# Altium schematic symbol library 2.1 - STM32系列单片机.SchLib: 370 symbols (part 2 of 21)
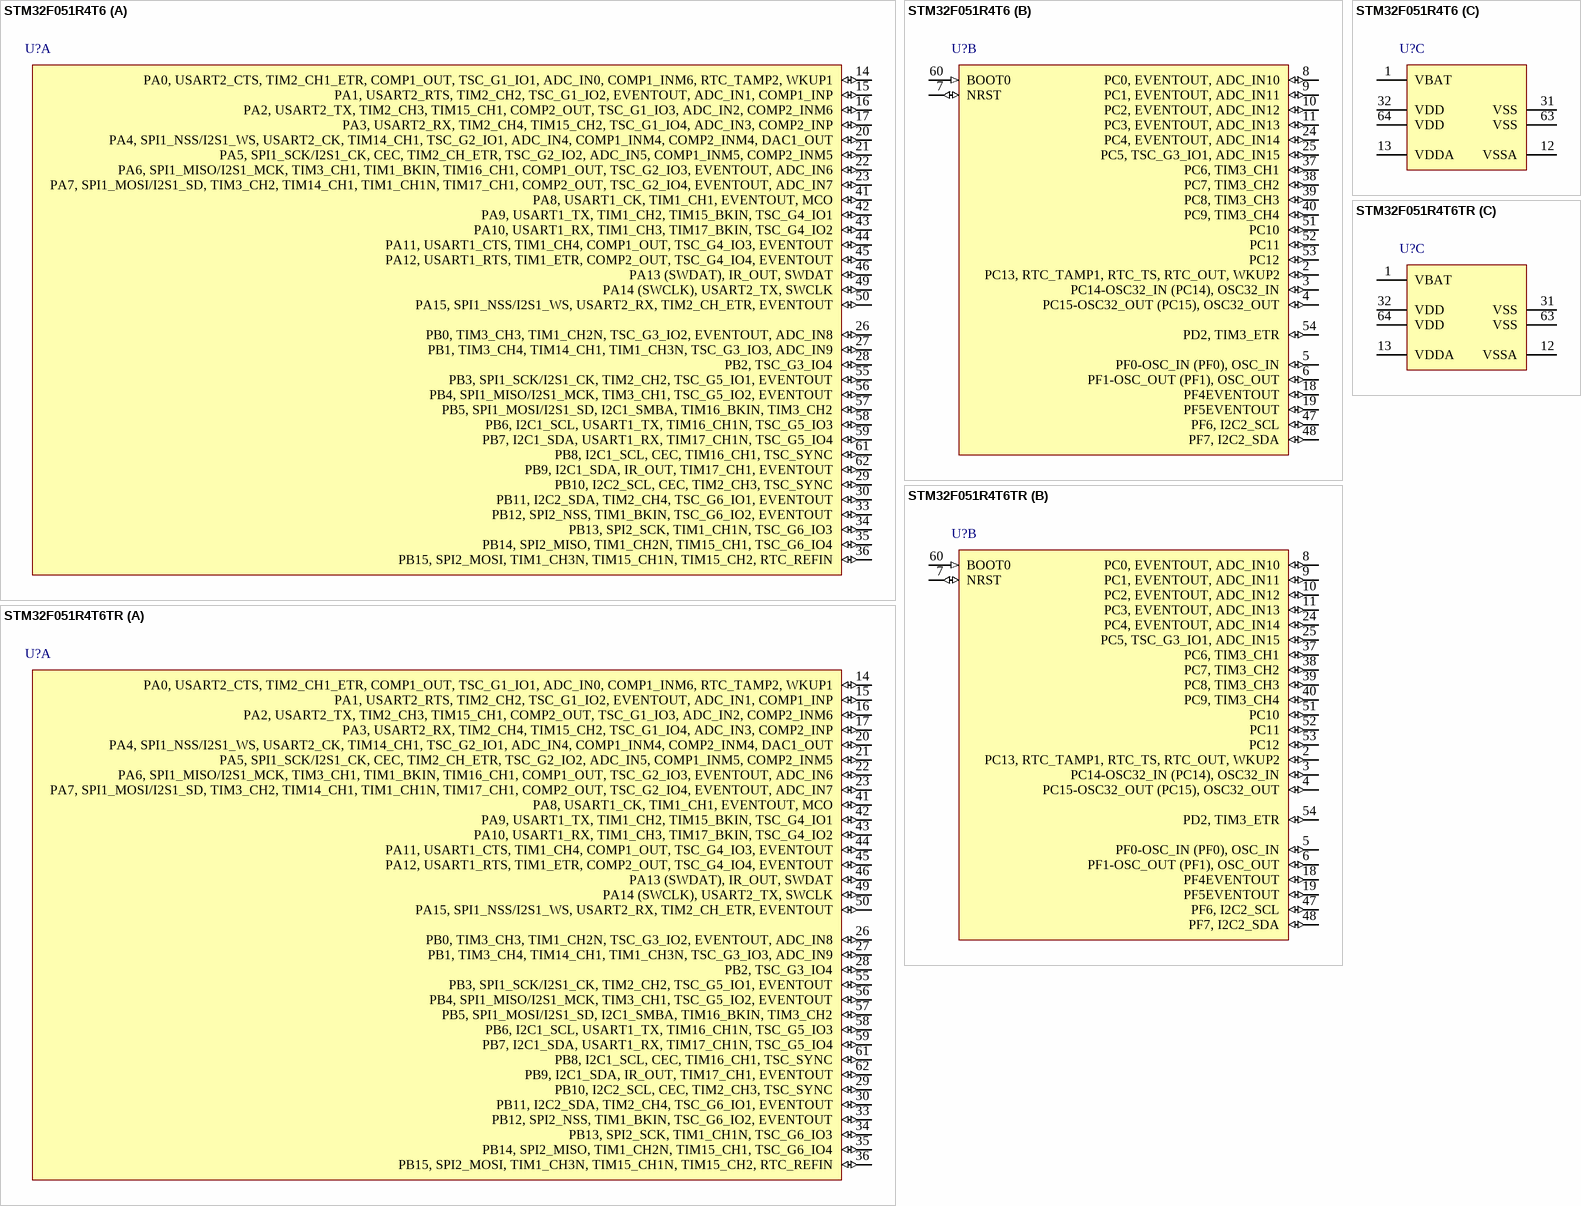
[diagram p99: symbols STM32F051R4T6 to STM32F051R4T6TR]

## STM32F051R4T6TR
designator U?
ARM Cortex-M0 32-bit RISC core (48 MHz max), 16kB Flash, 4 kB Internal RAM, 55 High Current I/Os, -40 to +85癈, 64-Pin LQFP, Tape and Reel; 16-bit timers (IC/OC/PWM): 8x16-bit; 32-bit timer (IC/OC/PWM): 1x32-bit; Other timer functions: 2 x WDG, RTC, 24-bit down counter; A/D Converter: 16x12-bit; Serial Interface: 1xSPI/I2S;1xI2C;1xUSART(IrDA, ISO 7816);CEC; Supply Current(Icc) (Lowest power mode) typ (礎): 1.65; Supply Current(Icc) (Run mode (per Mhz)) typ (礎): 250; 联系卖家，免费查找封装: 唯一出售店铺网址https://shop463601444.taobao.com; DatasheetVersion: rev1, Apr-2012; PackageVersion: rev13, Apr-2011; PackageReference: LQFP64; PackageDescription: 64-Pin Low-Profile Quad Flat Pack, 10 x 10 mm Body, 0.5 mm Pitch (LQFP64); ComponentLink1Description: Manufacturer URL; ComponentLink1URL: http://www.st.com/; ComponentLink2Description: Datasheet; ComponentLink2URL: http://www.st.com/internet/com/TECHNICAL_RESOURCES/TECHNICAL_LITERATURE/DATASHEET/DM00039193.pdf; ComponentLink3Description: STM32F0 Web Page; ComponentLink3URL: http://www.st.com/internet/mcu/subclass/1588.jsp
footprint LQFP64_N (Thin QFP, 64-Leads, Body 10x10mm, Pitch 0.5mm, IPC Medium Density)
footprint LQFP64_L (Thin QFP, 64-Leads, Body 10x10mm, Pitch 0.5mm, IPC High Density)
footprint LQFP64_M (Thin QFP, 64-Leads, Body 10x10mm, Pitch 0.5mm, IPC Low Density)
part A pins: 14 PA0, USART2_CTS, TIM2_CH1_ETR, COMP1_OUT, TSC_G1_IO1, ADC_IN0, COMP1_INM6, RTC_TAMP2, WKUP1 (io), 15 PA1, USART2_RTS, TIM2_CH2, TSC_G1_IO2, EVENTOUT, ADC_IN1, COMP1_INP (io), 16 PA2, USART2_TX, TIM2_CH3, TIM15_CH1, COMP2_OUT, TSC_G1_IO3, ADC_IN2, COMP2_INM6 (io), 17 PA3, USART2_RX, TIM2_CH4, TIM15_CH2, TSC_G1_IO4, ADC_IN3, COMP2_INP (io), 20 PA4, SPI1_NSS/I2S1_WS, USART2_CK, TIM14_CH1, TSC_G2_IO1, ADC_IN4, COMP1_INM4, COMP2_INM4, DAC1_OUT (io), 21 PA5, SPI1_SCK/I2S1_CK, CEC, TIM2_CH_ETR, TSC_G2_IO2, ADC_IN5, COMP1_INM5, COMP2_INM5 (io), 22 PA6, SPI1_MISO/I2S1_MCK, TIM3_CH1, TIM1_BKIN, TIM16_CH1, COMP1_OUT, TSC_G2_IO3, EVENTOUT, ADC_IN6 (io), 23 PA7, SPI1_MOSI/I2S1_SD, TIM3_CH2, TIM14_CH1, TIM1_CH1N, TIM17_CH1, COMP2_OUT, TSC_G2_IO4, EVENTOUT, ADC_IN7 (io), 26 PB0, TIM3_CH3, TIM1_CH2N, TSC_G3_IO2, EVENTOUT, ADC_IN8 (io), 27 PB1, TIM3_CH4, TIM14_CH1, TIM1_CH3N, TSC_G3_IO3, ADC_IN9 (io), 28 PB2, TSC_G3_IO4 (io), 29 PB10, I2C2_SCL, CEC, TIM2_CH3, TSC_SYNC (io), 30 PB11, I2C2_SDA, TIM2_CH4, TSC_G6_IO1, EVENTOUT (io), 33 PB12, SPI2_NSS, TIM1_BKIN, TSC_G6_IO2, EVENTOUT (io), 34 PB13, SPI2_SCK, TIM1_CH1N, TSC_G6_IO3 (io), 35 PB14, SPI2_MISO, TIM1_CH2N, TIM15_CH1, TSC_G6_IO4 (io), 36 PB15, SPI2_MOSI, TIM1_CH3N, TIM15_CH1N, TIM15_CH2, RTC_REFIN (io), 41 PA8, USART1_CK, TIM1_CH1, EVENTOUT, MCO (io), 42 PA9, USART1_TX, TIM1_CH2, TIM15_BKIN, TSC_G4_IO1 (io), 43 PA10, USART1_RX, TIM1_CH3, TIM17_BKIN, TSC_G4_IO2 (io), 44 PA11, USART1_CTS, TIM1_CH4, COMP1_OUT, TSC_G4_IO3, EVENTOUT (io), 45 PA12, USART1_RTS, TIM1_ETR, COMP2_OUT, TSC_G4_IO4, EVENTOUT (io), 46 PA13 (SWDAT), IR_OUT, SWDAT (io), 49 PA14 (SWCLK), USART2_TX, SWCLK (io), 50 PA15, SPI1_NSS/I2S1_WS, USART2_RX, TIM2_CH_ETR, EVENTOUT (io), 55 PB3, SPI1_SCK/I2S1_CK, TIM2_CH2, TSC_G5_IO1, EVENTOUT (io), 56 PB4, SPI1_MISO/I2S1_MCK, TIM3_CH1, TSC_G5_IO2, EVENTOUT (io), 57 PB5, SPI1_MOSI/I2S1_SD, I2C1_SMBA, TIM16_BKIN, TIM3_CH2 (io), 58 PB6, I2C1_SCL, USART1_TX, TIM16_CH1N, TSC_G5_IO3 (io), 59 PB7, I2C1_SDA, USART1_RX, TIM17_CH1N, TSC_G5_IO4 (io), 61 PB8, I2C1_SCL, CEC, TIM16_CH1, TSC_SYNC (io), 62 PB9, I2C1_SDA, IR_OUT, TIM17_CH1, EVENTOUT (io)
part B pins: 2 PC13, RTC_TAMP1, RTC_TS, RTC_OUT, WKUP2 (io), 3 PC14-OSC32_IN (PC14), OSC32_IN (io), 4 PC15-OSC32_OUT (PC15), OSC32_OUT (io), 5 PF0-OSC_IN (PF0), OSC_IN (io), 6 PF1-OSC_OUT (PF1), OSC_OUT (io), 7 NRST (io), 8 PC0, EVENTOUT, ADC_IN10 (io), 9 PC1, EVENTOUT, ADC_IN11 (io), 10 PC2, EVENTOUT, ADC_IN12 (io), 11 PC3, EVENTOUT, ADC_IN13 (io), 18 PF4EVENTOUT (io), 19 PF5EVENTOUT (io), 24 PC4, EVENTOUT, ADC_IN14 (io), 25 PC5, TSC_G3_IO1, ADC_IN15 (io), 37 PC6, TIM3_CH1 (io), 38 PC7, TIM3_CH2 (io), 39 PC8, TIM3_CH3 (io), 40 PC9, TIM3_CH4 (io), 47 PF6, I2C2_SCL (io), 48 PF7, I2C2_SDA (io), 51 PC10 (io), 52 PC11 (io), 53 PC12 (io), 54 PD2, TIM3_ETR (io), 60 BOOT0 (in)
part C pins: 1 VBAT (power), 12 VSSA (power), 13 VDDA (power), 31 VSS (power), 32 VDD (power), 63 VSS (power), 64 VDD (power)

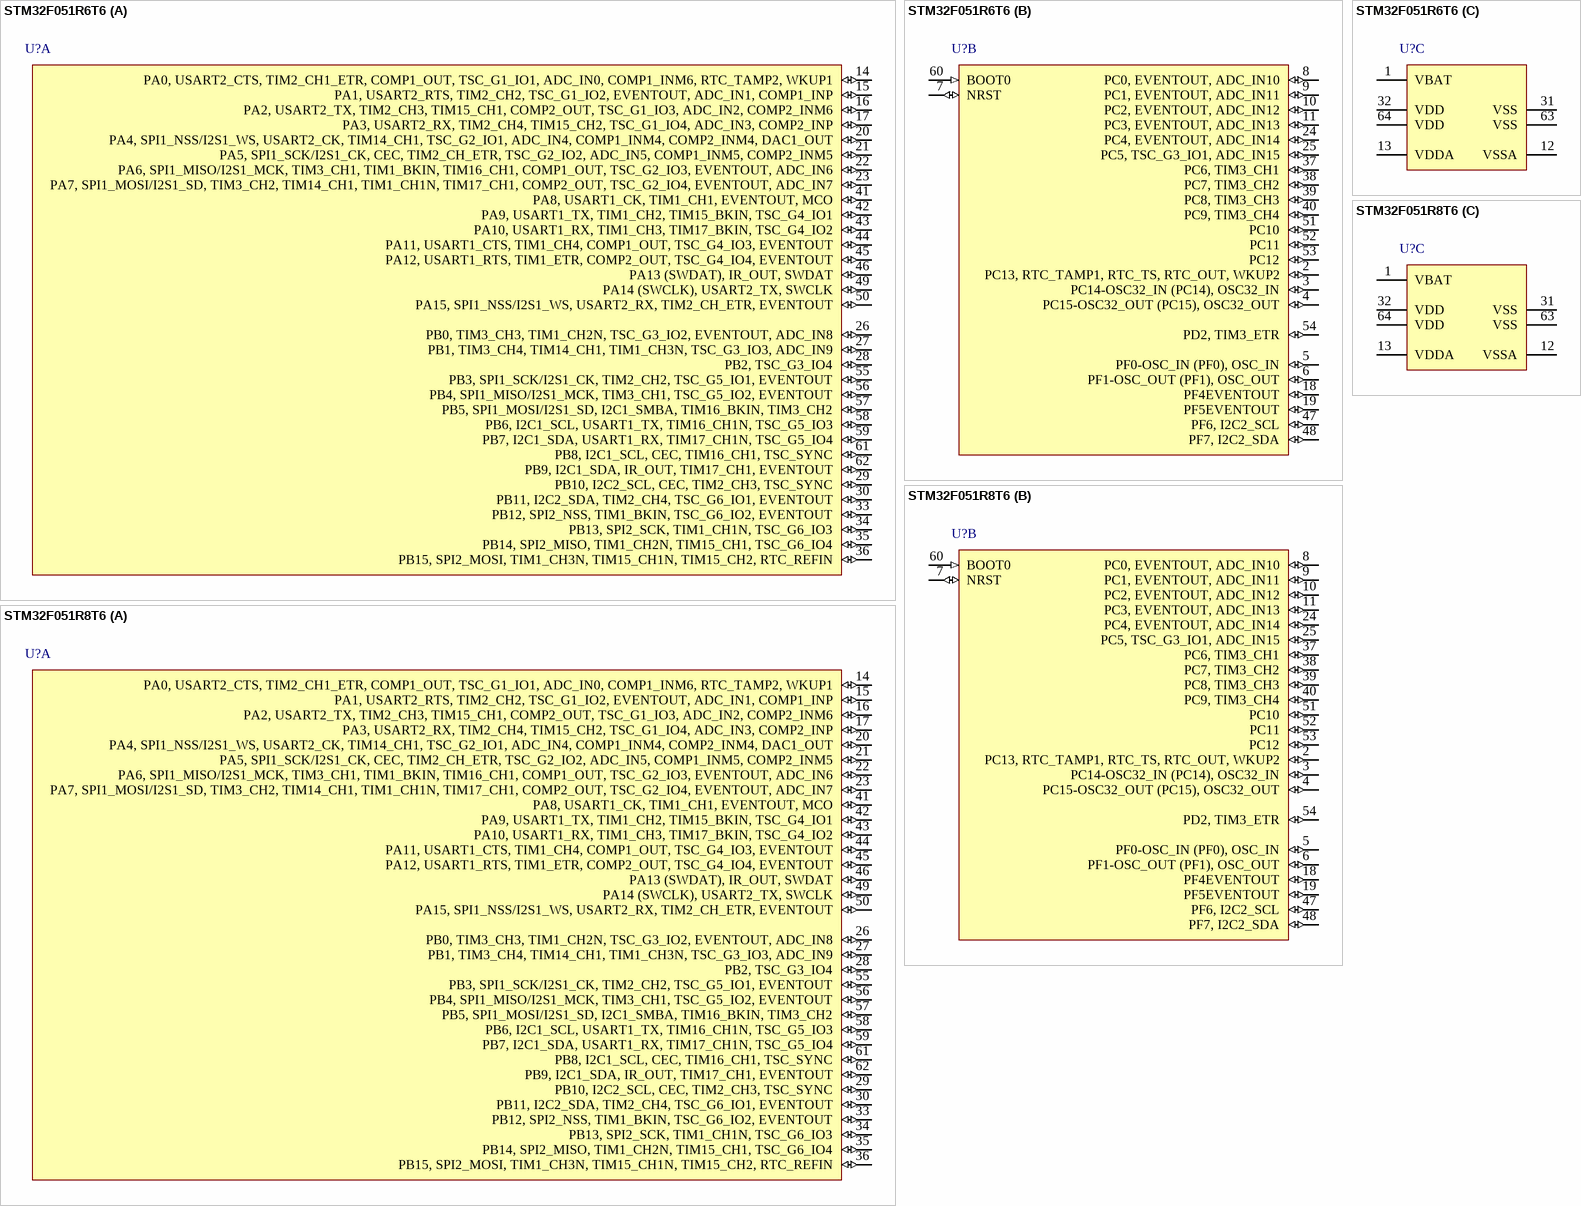
[diagram p7: symbols STM32F051R6T6 to STM32F051R8T6]

## STM32F051R6T6
designator U?
ARM Cortex-M0 32-bit RISC core (48 MHz max), 32kB Flash, 4 kB Internal RAM, 55 High Current I/Os, -40 to +85癈, 64-Pin LQFP, Tray; 16-bit timers (IC/OC/PWM): 8x16-bit; 32-bit timer (IC/OC/PWM): 1x32-bit; Other timer functions: 2 x WDG, RTC, 24-bit down counter; A/D Converter: 16x12-bit; Serial Interface: 1xSP/I2S;1xI2C;2xUSART(IrDA, ISO 7816);CEC; Supply Current(Icc) (Lowest power mode) typ (礎): 1.65; Supply Current(Icc) (Run mode (per Mhz)) typ (礎): 250; 联系卖家，免费查找封装: 唯一出售店铺网址https://shop463601444.taobao.com; DatasheetVersion: rev1, Apr-2012; PackageVersion: rev13, Apr-2011; PackageReference: LQFP64; PackageDescription: 64-Pin Low-Profile Quad Flat Pack, 10 x 10 mm Body, 0.5 mm Pitch (LQFP64); ComponentLink1Description: Manufacturer URL; ComponentLink1URL: http://www.st.com/; ComponentLink2Description: Datasheet; ComponentLink2URL: http://www.st.com/internet/com/TECHNICAL_RESOURCES/TECHNICAL_LITERATURE/DATASHEET/DM00039193.pdf; ComponentLink3Description: STM32F0 Web Page; ComponentLink3URL: http://www.st.com/internet/mcu/subclass/1588.jsp
footprint LQFP64_N (Thin QFP, 64-Leads, Body 10x10mm, Pitch 0.5mm, IPC Medium Density)
footprint LQFP64_L (Thin QFP, 64-Leads, Body 10x10mm, Pitch 0.5mm, IPC High Density)
footprint LQFP64_M (Thin QFP, 64-Leads, Body 10x10mm, Pitch 0.5mm, IPC Low Density)
part A pins: 14 PA0, USART2_CTS, TIM2_CH1_ETR, COMP1_OUT, TSC_G1_IO1, ADC_IN0, COMP1_INM6, RTC_TAMP2, WKUP1 (io), 15 PA1, USART2_RTS, TIM2_CH2, TSC_G1_IO2, EVENTOUT, ADC_IN1, COMP1_INP (io), 16 PA2, USART2_TX, TIM2_CH3, TIM15_CH1, COMP2_OUT, TSC_G1_IO3, ADC_IN2, COMP2_INM6 (io), 17 PA3, USART2_RX, TIM2_CH4, TIM15_CH2, TSC_G1_IO4, ADC_IN3, COMP2_INP (io), 20 PA4, SPI1_NSS/I2S1_WS, USART2_CK, TIM14_CH1, TSC_G2_IO1, ADC_IN4, COMP1_INM4, COMP2_INM4, DAC1_OUT (io), 21 PA5, SPI1_SCK/I2S1_CK, CEC, TIM2_CH_ETR, TSC_G2_IO2, ADC_IN5, COMP1_INM5, COMP2_INM5 (io), 22 PA6, SPI1_MISO/I2S1_MCK, TIM3_CH1, TIM1_BKIN, TIM16_CH1, COMP1_OUT, TSC_G2_IO3, EVENTOUT, ADC_IN6 (io), 23 PA7, SPI1_MOSI/I2S1_SD, TIM3_CH2, TIM14_CH1, TIM1_CH1N, TIM17_CH1, COMP2_OUT, TSC_G2_IO4, EVENTOUT, ADC_IN7 (io), 26 PB0, TIM3_CH3, TIM1_CH2N, TSC_G3_IO2, EVENTOUT, ADC_IN8 (io), 27 PB1, TIM3_CH4, TIM14_CH1, TIM1_CH3N, TSC_G3_IO3, ADC_IN9 (io), 28 PB2, TSC_G3_IO4 (io), 29 PB10, I2C2_SCL, CEC, TIM2_CH3, TSC_SYNC (io), 30 PB11, I2C2_SDA, TIM2_CH4, TSC_G6_IO1, EVENTOUT (io), 33 PB12, SPI2_NSS, TIM1_BKIN, TSC_G6_IO2, EVENTOUT (io), 34 PB13, SPI2_SCK, TIM1_CH1N, TSC_G6_IO3 (io), 35 PB14, SPI2_MISO, TIM1_CH2N, TIM15_CH1, TSC_G6_IO4 (io), 36 PB15, SPI2_MOSI, TIM1_CH3N, TIM15_CH1N, TIM15_CH2, RTC_REFIN (io), 41 PA8, USART1_CK, TIM1_CH1, EVENTOUT, MCO (io), 42 PA9, USART1_TX, TIM1_CH2, TIM15_BKIN, TSC_G4_IO1 (io), 43 PA10, USART1_RX, TIM1_CH3, TIM17_BKIN, TSC_G4_IO2 (io), 44 PA11, USART1_CTS, TIM1_CH4, COMP1_OUT, TSC_G4_IO3, EVENTOUT (io), 45 PA12, USART1_RTS, TIM1_ETR, COMP2_OUT, TSC_G4_IO4, EVENTOUT (io), 46 PA13 (SWDAT), IR_OUT, SWDAT (io), 49 PA14 (SWCLK), USART2_TX, SWCLK (io), 50 PA15, SPI1_NSS/I2S1_WS, USART2_RX, TIM2_CH_ETR, EVENTOUT (io), 55 PB3, SPI1_SCK/I2S1_CK, TIM2_CH2, TSC_G5_IO1, EVENTOUT (io), 56 PB4, SPI1_MISO/I2S1_MCK, TIM3_CH1, TSC_G5_IO2, EVENTOUT (io), 57 PB5, SPI1_MOSI/I2S1_SD, I2C1_SMBA, TIM16_BKIN, TIM3_CH2 (io), 58 PB6, I2C1_SCL, USART1_TX, TIM16_CH1N, TSC_G5_IO3 (io), 59 PB7, I2C1_SDA, USART1_RX, TIM17_CH1N, TSC_G5_IO4 (io), 61 PB8, I2C1_SCL, CEC, TIM16_CH1, TSC_SYNC (io), 62 PB9, I2C1_SDA, IR_OUT, TIM17_CH1, EVENTOUT (io)
part B pins: 2 PC13, RTC_TAMP1, RTC_TS, RTC_OUT, WKUP2 (io), 3 PC14-OSC32_IN (PC14), OSC32_IN (io), 4 PC15-OSC32_OUT (PC15), OSC32_OUT (io), 5 PF0-OSC_IN (PF0), OSC_IN (io), 6 PF1-OSC_OUT (PF1), OSC_OUT (io), 7 NRST (io), 8 PC0, EVENTOUT, ADC_IN10 (io), 9 PC1, EVENTOUT, ADC_IN11 (io), 10 PC2, EVENTOUT, ADC_IN12 (io), 11 PC3, EVENTOUT, ADC_IN13 (io), 18 PF4EVENTOUT (io), 19 PF5EVENTOUT (io), 24 PC4, EVENTOUT, ADC_IN14 (io), 25 PC5, TSC_G3_IO1, ADC_IN15 (io), 37 PC6, TIM3_CH1 (io), 38 PC7, TIM3_CH2 (io), 39 PC8, TIM3_CH3 (io), 40 PC9, TIM3_CH4 (io), 47 PF6, I2C2_SCL (io), 48 PF7, I2C2_SDA (io), 51 PC10 (io), 52 PC11 (io), 53 PC12 (io), 54 PD2, TIM3_ETR (io), 60 BOOT0 (in)
part C pins: 1 VBAT (power), 12 VSSA (power), 13 VDDA (power), 31 VSS (power), 32 VDD (power), 63 VSS (power), 64 VDD (power)

## STM32F051R8T6
designator U?
ARM Cortex-M0 32-bit RISC core (48 MHz max), 64kB Flash, 8 kB Internal RAM, 55 High Current I/Os, -40 to +85癈, 64-Pin LQFP, Tray; 16-bit timers (IC/OC/PWM): 8x16-bit; 32-bit timer (IC/OC/PWM): 1x32-bit; Other timer functions: 2 x WDG, RTC, 24-bit down counter; A/D Converter: 16x12-bit; Serial Interface: 1xSPI/I2S;1xSPI;2xI2C;2xUSART(IrDA, ISO 7816);CEC; Supply Current(Icc) (Lowest power mode) typ (礎): 1.65; Supply Current(Icc) (Run mode (per Mhz)) typ (礎): 250; 联系卖家，免费查找封装: 唯一出售店铺网址https://shop463601444.taobao.com; DatasheetVersion: rev1, Apr-2012; PackageVersion: rev13, Apr-2011; PackageReference: LQFP64; PackageDescription: 64-Pin Low-Profile Quad Flat Pack, 10 x 10 mm Body, 0.5 mm Pitch (LQFP64); ComponentLink1Description: Manufacturer URL; ComponentLink1URL: http://www.st.com/; ComponentLink2Description: Datasheet; ComponentLink2URL: http://www.st.com/internet/com/TECHNICAL_RESOURCES/TECHNICAL_LITERATURE/DATASHEET/DM00039193.pdf; ComponentLink3Description: STM32F0 Web Page; ComponentLink3URL: http://www.st.com/internet/mcu/subclass/1588.jsp
footprint LQFP64_N (Thin QFP, 64-Leads, Body 10x10mm, Pitch 0.5mm, IPC Medium Density)
footprint LQFP64_L (Thin QFP, 64-Leads, Body 10x10mm, Pitch 0.5mm, IPC High Density)
footprint LQFP64_M (Thin QFP, 64-Leads, Body 10x10mm, Pitch 0.5mm, IPC Low Density)
part A pins: 14 PA0, USART2_CTS, TIM2_CH1_ETR, COMP1_OUT, TSC_G1_IO1, ADC_IN0, COMP1_INM6, RTC_TAMP2, WKUP1 (io), 15 PA1, USART2_RTS, TIM2_CH2, TSC_G1_IO2, EVENTOUT, ADC_IN1, COMP1_INP (io), 16 PA2, USART2_TX, TIM2_CH3, TIM15_CH1, COMP2_OUT, TSC_G1_IO3, ADC_IN2, COMP2_INM6 (io), 17 PA3, USART2_RX, TIM2_CH4, TIM15_CH2, TSC_G1_IO4, ADC_IN3, COMP2_INP (io), 20 PA4, SPI1_NSS/I2S1_WS, USART2_CK, TIM14_CH1, TSC_G2_IO1, ADC_IN4, COMP1_INM4, COMP2_INM4, DAC1_OUT (io), 21 PA5, SPI1_SCK/I2S1_CK, CEC, TIM2_CH_ETR, TSC_G2_IO2, ADC_IN5, COMP1_INM5, COMP2_INM5 (io), 22 PA6, SPI1_MISO/I2S1_MCK, TIM3_CH1, TIM1_BKIN, TIM16_CH1, COMP1_OUT, TSC_G2_IO3, EVENTOUT, ADC_IN6 (io), 23 PA7, SPI1_MOSI/I2S1_SD, TIM3_CH2, TIM14_CH1, TIM1_CH1N, TIM17_CH1, COMP2_OUT, TSC_G2_IO4, EVENTOUT, ADC_IN7 (io), 26 PB0, TIM3_CH3, TIM1_CH2N, TSC_G3_IO2, EVENTOUT, ADC_IN8 (io), 27 PB1, TIM3_CH4, TIM14_CH1, TIM1_CH3N, TSC_G3_IO3, ADC_IN9 (io), 28 PB2, TSC_G3_IO4 (io), 29 PB10, I2C2_SCL, CEC, TIM2_CH3, TSC_SYNC (io), 30 PB11, I2C2_SDA, TIM2_CH4, TSC_G6_IO1, EVENTOUT (io), 33 PB12, SPI2_NSS, TIM1_BKIN, TSC_G6_IO2, EVENTOUT (io), 34 PB13, SPI2_SCK, TIM1_CH1N, TSC_G6_IO3 (io), 35 PB14, SPI2_MISO, TIM1_CH2N, TIM15_CH1, TSC_G6_IO4 (io), 36 PB15, SPI2_MOSI, TIM1_CH3N, TIM15_CH1N, TIM15_CH2, RTC_REFIN (io), 41 PA8, USART1_CK, TIM1_CH1, EVENTOUT, MCO (io), 42 PA9, USART1_TX, TIM1_CH2, TIM15_BKIN, TSC_G4_IO1 (io), 43 PA10, USART1_RX, TIM1_CH3, TIM17_BKIN, TSC_G4_IO2 (io), 44 PA11, USART1_CTS, TIM1_CH4, COMP1_OUT, TSC_G4_IO3, EVENTOUT (io), 45 PA12, USART1_RTS, TIM1_ETR, COMP2_OUT, TSC_G4_IO4, EVENTOUT (io), 46 PA13 (SWDAT), IR_OUT, SWDAT (io), 49 PA14 (SWCLK), USART2_TX, SWCLK (io), 50 PA15, SPI1_NSS/I2S1_WS, USART2_RX, TIM2_CH_ETR, EVENTOUT (io), 55 PB3, SPI1_SCK/I2S1_CK, TIM2_CH2, TSC_G5_IO1, EVENTOUT (io), 56 PB4, SPI1_MISO/I2S1_MCK, TIM3_CH1, TSC_G5_IO2, EVENTOUT (io), 57 PB5, SPI1_MOSI/I2S1_SD, I2C1_SMBA, TIM16_BKIN, TIM3_CH2 (io), 58 PB6, I2C1_SCL, USART1_TX, TIM16_CH1N, TSC_G5_IO3 (io), 59 PB7, I2C1_SDA, USART1_RX, TIM17_CH1N, TSC_G5_IO4 (io), 61 PB8, I2C1_SCL, CEC, TIM16_CH1, TSC_SYNC (io), 62 PB9, I2C1_SDA, IR_OUT, TIM17_CH1, EVENTOUT (io)
part B pins: 2 PC13, RTC_TAMP1, RTC_TS, RTC_OUT, WKUP2 (io), 3 PC14-OSC32_IN (PC14), OSC32_IN (io), 4 PC15-OSC32_OUT (PC15), OSC32_OUT (io), 5 PF0-OSC_IN (PF0), OSC_IN (io), 6 PF1-OSC_OUT (PF1), OSC_OUT (io), 7 NRST (io), 8 PC0, EVENTOUT, ADC_IN10 (io), 9 PC1, EVENTOUT, ADC_IN11 (io), 10 PC2, EVENTOUT, ADC_IN12 (io), 11 PC3, EVENTOUT, ADC_IN13 (io), 18 PF4EVENTOUT (io), 19 PF5EVENTOUT (io), 24 PC4, EVENTOUT, ADC_IN14 (io), 25 PC5, TSC_G3_IO1, ADC_IN15 (io), 37 PC6, TIM3_CH1 (io), 38 PC7, TIM3_CH2 (io), 39 PC8, TIM3_CH3 (io), 40 PC9, TIM3_CH4 (io), 47 PF6, I2C2_SCL (io), 48 PF7, I2C2_SDA (io), 51 PC10 (io), 52 PC11 (io), 53 PC12 (io), 54 PD2, TIM3_ETR (io), 60 BOOT0 (in)
part C pins: 1 VBAT (power), 12 VSSA (power), 13 VDDA (power), 31 VSS (power), 32 VDD (power), 63 VSS (power), 64 VDD (power)

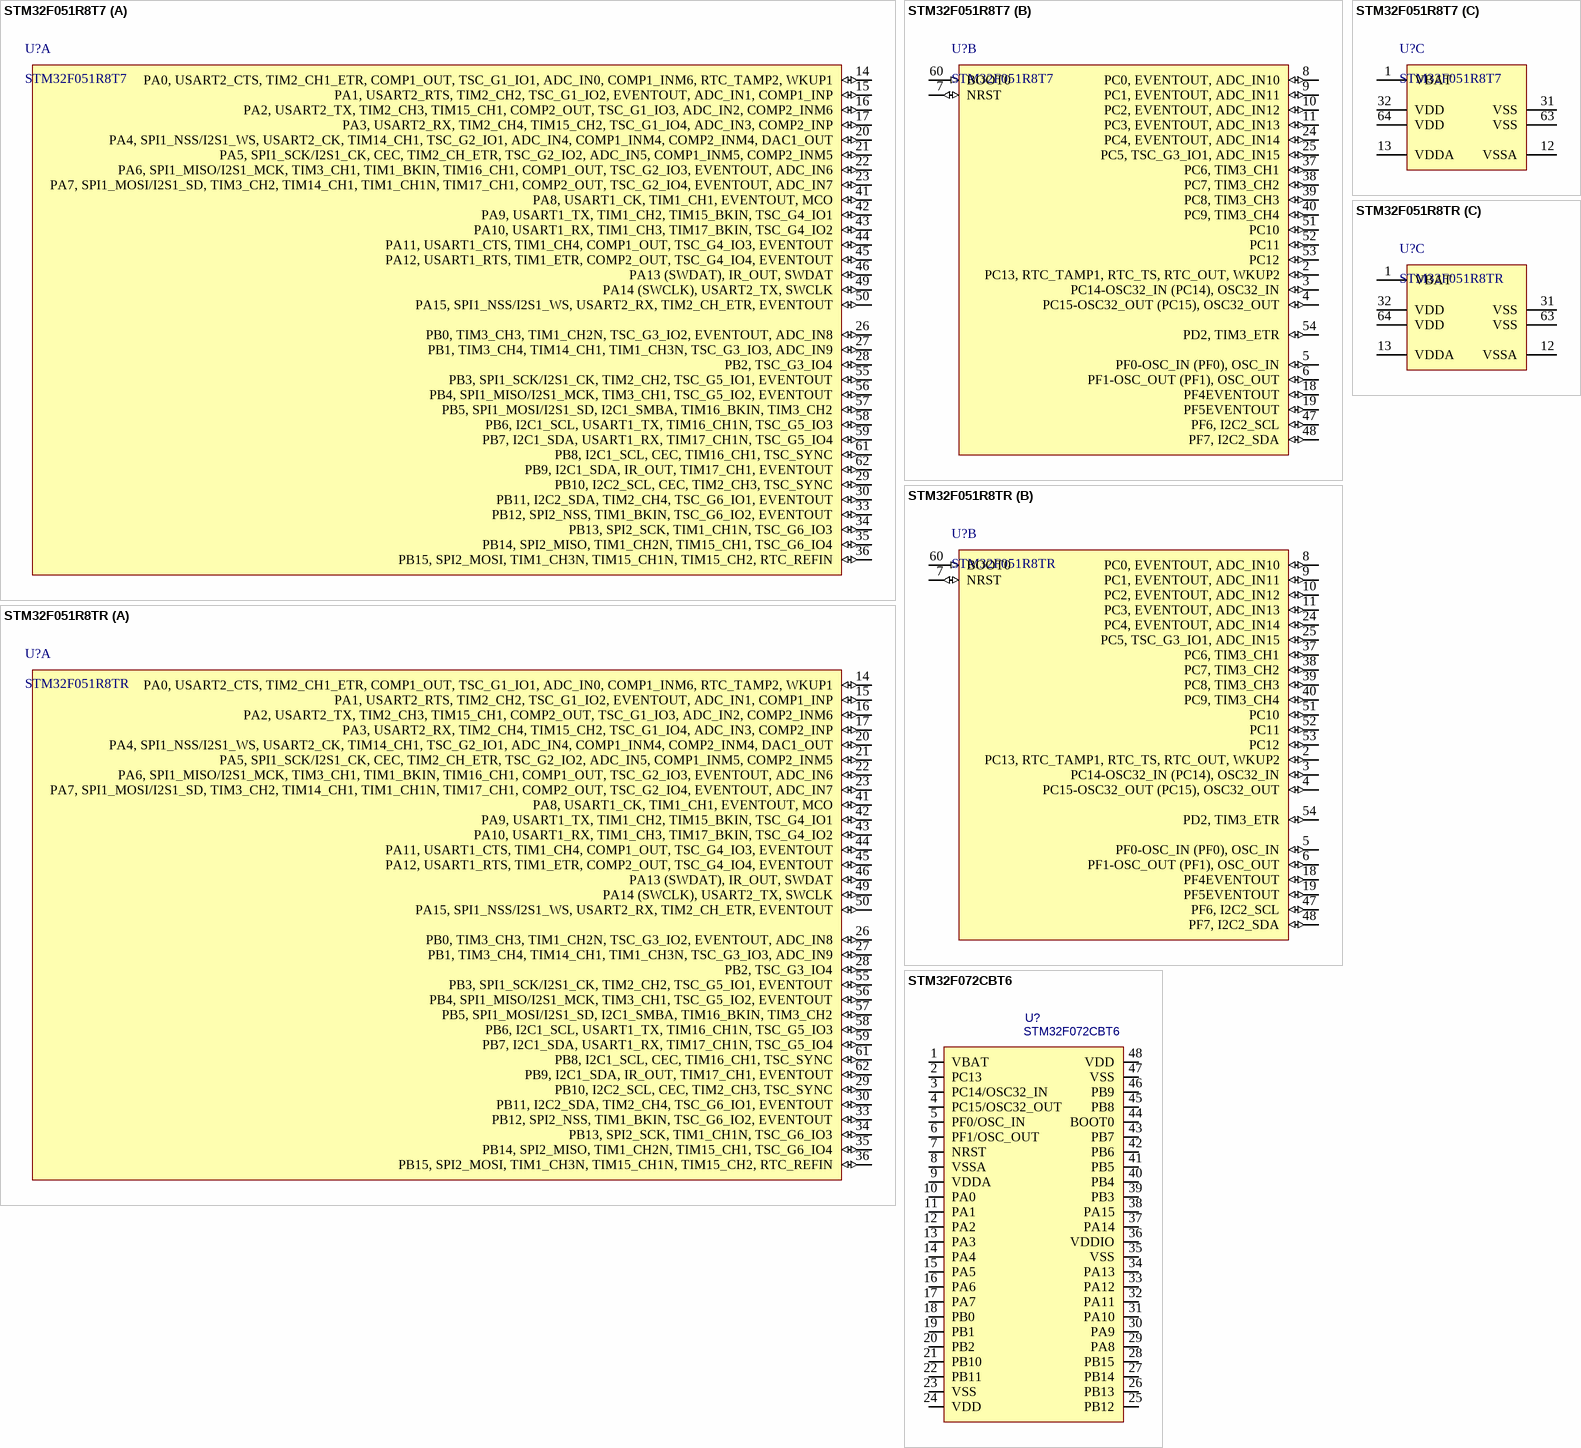
[diagram p8: symbols STM32F051R8T7 to STM32F072CBT6]

## STM32F051R8T7
designator U?
ARM Cortex-M0 32-bit RISC core (48 MHz max), 64kB Flash, 8 kB Internal RAM, 55 High Current I/Os, -40 to +105癈, 64-Pin LQFP, Tray; 16-bit timers (IC/OC/PWM): 8x16-bit; 32-bit timer (IC/OC/PWM): 1x32-bit; Other timer functions: 2 x WDG, RTC, 24-bit down counter; A/D Converter: 16x12-bit; Serial Interface: 1xSPI/I2S;1xSPI;2xI2C;2xUSART(IrDA, ISO 7816);CEC; Supply Current(Icc) (Lowest power mode) typ (礎): 1.65; Supply Current(Icc) (Run mode (per Mhz)) typ (礎): 250; 联系卖家，免费查找封装: 唯一出售店铺网址https://shop463601444.taobao.com; DatasheetVersion: rev1, Apr-2012; PackageVersion: rev13, Apr-2011; PackageReference: LQFP64; PackageDescription: 64-Pin Low-Profile Quad Flat Pack, 10 x 10 mm Body, 0.5 mm Pitch (LQFP64); ComponentLink1Description: Manufacturer URL; ComponentLink1URL: https://shop463601444.taobao.com; ComponentLink2Description: Datasheet; ComponentLink2URL: http://www.st.com/internet/com/TECHNICAL_RESOURCES/TECHNICAL_LITERATURE/DATASHEET/DM00039193.pdf; ComponentLink3Description: STM32F0 Web Page; ComponentLink3URL: http://www.st.com/internet/mcu/subclass/1588.jsp
footprint LQFP64_N (Thin QFP, 64-Leads, Body 10x10mm, Pitch 0.5mm, IPC Medium Density)
footprint LQFP64_L (Thin QFP, 64-Leads, Body 10x10mm, Pitch 0.5mm, IPC High Density)
footprint LQFP64_M (Thin QFP, 64-Leads, Body 10x10mm, Pitch 0.5mm, IPC Low Density)
part A pins: 14 PA0, USART2_CTS, TIM2_CH1_ETR, COMP1_OUT, TSC_G1_IO1, ADC_IN0, COMP1_INM6, RTC_TAMP2, WKUP1 (io), 15 PA1, USART2_RTS, TIM2_CH2, TSC_G1_IO2, EVENTOUT, ADC_IN1, COMP1_INP (io), 16 PA2, USART2_TX, TIM2_CH3, TIM15_CH1, COMP2_OUT, TSC_G1_IO3, ADC_IN2, COMP2_INM6 (io), 17 PA3, USART2_RX, TIM2_CH4, TIM15_CH2, TSC_G1_IO4, ADC_IN3, COMP2_INP (io), 20 PA4, SPI1_NSS/I2S1_WS, USART2_CK, TIM14_CH1, TSC_G2_IO1, ADC_IN4, COMP1_INM4, COMP2_INM4, DAC1_OUT (io), 21 PA5, SPI1_SCK/I2S1_CK, CEC, TIM2_CH_ETR, TSC_G2_IO2, ADC_IN5, COMP1_INM5, COMP2_INM5 (io), 22 PA6, SPI1_MISO/I2S1_MCK, TIM3_CH1, TIM1_BKIN, TIM16_CH1, COMP1_OUT, TSC_G2_IO3, EVENTOUT, ADC_IN6 (io), 23 PA7, SPI1_MOSI/I2S1_SD, TIM3_CH2, TIM14_CH1, TIM1_CH1N, TIM17_CH1, COMP2_OUT, TSC_G2_IO4, EVENTOUT, ADC_IN7 (io), 26 PB0, TIM3_CH3, TIM1_CH2N, TSC_G3_IO2, EVENTOUT, ADC_IN8 (io), 27 PB1, TIM3_CH4, TIM14_CH1, TIM1_CH3N, TSC_G3_IO3, ADC_IN9 (io), 28 PB2, TSC_G3_IO4 (io), 29 PB10, I2C2_SCL, CEC, TIM2_CH3, TSC_SYNC (io), 30 PB11, I2C2_SDA, TIM2_CH4, TSC_G6_IO1, EVENTOUT (io), 33 PB12, SPI2_NSS, TIM1_BKIN, TSC_G6_IO2, EVENTOUT (io), 34 PB13, SPI2_SCK, TIM1_CH1N, TSC_G6_IO3 (io), 35 PB14, SPI2_MISO, TIM1_CH2N, TIM15_CH1, TSC_G6_IO4 (io), 36 PB15, SPI2_MOSI, TIM1_CH3N, TIM15_CH1N, TIM15_CH2, RTC_REFIN (io), 41 PA8, USART1_CK, TIM1_CH1, EVENTOUT, MCO (io), 42 PA9, USART1_TX, TIM1_CH2, TIM15_BKIN, TSC_G4_IO1 (io), 43 PA10, USART1_RX, TIM1_CH3, TIM17_BKIN, TSC_G4_IO2 (io), 44 PA11, USART1_CTS, TIM1_CH4, COMP1_OUT, TSC_G4_IO3, EVENTOUT (io), 45 PA12, USART1_RTS, TIM1_ETR, COMP2_OUT, TSC_G4_IO4, EVENTOUT (io), 46 PA13 (SWDAT), IR_OUT, SWDAT (io), 49 PA14 (SWCLK), USART2_TX, SWCLK (io), 50 PA15, SPI1_NSS/I2S1_WS, USART2_RX, TIM2_CH_ETR, EVENTOUT (io), 55 PB3, SPI1_SCK/I2S1_CK, TIM2_CH2, TSC_G5_IO1, EVENTOUT (io), 56 PB4, SPI1_MISO/I2S1_MCK, TIM3_CH1, TSC_G5_IO2, EVENTOUT (io), 57 PB5, SPI1_MOSI/I2S1_SD, I2C1_SMBA, TIM16_BKIN, TIM3_CH2 (io), 58 PB6, I2C1_SCL, USART1_TX, TIM16_CH1N, TSC_G5_IO3 (io), 59 PB7, I2C1_SDA, USART1_RX, TIM17_CH1N, TSC_G5_IO4 (io), 61 PB8, I2C1_SCL, CEC, TIM16_CH1, TSC_SYNC (io), 62 PB9, I2C1_SDA, IR_OUT, TIM17_CH1, EVENTOUT (io)
part B pins: 2 PC13, RTC_TAMP1, RTC_TS, RTC_OUT, WKUP2 (io), 3 PC14-OSC32_IN (PC14), OSC32_IN (io), 4 PC15-OSC32_OUT (PC15), OSC32_OUT (io), 5 PF0-OSC_IN (PF0), OSC_IN (io), 6 PF1-OSC_OUT (PF1), OSC_OUT (io), 7 NRST (io), 8 PC0, EVENTOUT, ADC_IN10 (io), 9 PC1, EVENTOUT, ADC_IN11 (io), 10 PC2, EVENTOUT, ADC_IN12 (io), 11 PC3, EVENTOUT, ADC_IN13 (io), 18 PF4EVENTOUT (io), 19 PF5EVENTOUT (io), 24 PC4, EVENTOUT, ADC_IN14 (io), 25 PC5, TSC_G3_IO1, ADC_IN15 (io), 37 PC6, TIM3_CH1 (io), 38 PC7, TIM3_CH2 (io), 39 PC8, TIM3_CH3 (io), 40 PC9, TIM3_CH4 (io), 47 PF6, I2C2_SCL (io), 48 PF7, I2C2_SDA (io), 51 PC10 (io), 52 PC11 (io), 53 PC12 (io), 54 PD2, TIM3_ETR (io), 60 BOOT0 (in)
part C pins: 1 VBAT (power), 12 VSSA (power), 13 VDDA (power), 31 VSS (power), 32 VDD (power), 63 VSS (power), 64 VDD (power)

## STM32F051R8TR
designator U?
ARM Cortex-M0 32-bit RISC core (48 MHz max), 64kB Flash, 8 kB Internal RAM, 55 High Current I/Os, -40 to +105癈, 64-Pin LQFP, Tape and Reel; 16-bit timers (IC/OC/PWM): 8x16-bit; 32-bit timer (IC/OC/PWM): 1x32-bit; Other timer functions: 2 x WDG, RTC, 24-bit down counter; A/D Converter: 16x12-bit; Serial Interface: 1xSPI/I2S;1xSPI;2xI2C;2xUSART(IrDA, ISO 7816);CEC; Supply Current(Icc) (Lowest power mode) typ (礎): 1.65; Supply Current(Icc) (Run mode (per Mhz)) typ (礎): 250; 联系卖家，免费查找封装: 唯一出售店铺网址https://shop463601444.taobao.com; DatasheetVersion: rev1, Apr-2012; PackageVersion: rev13, Apr-2011; PackageReference: LQFP64; PackageDescription: 64-Pin Low-Profile Quad Flat Pack, 10 x 10 mm Body, 0.5 mm Pitch (LQFP64); ComponentLink1Description: Manufacturer URL; ComponentLink2Description: Datasheet; ComponentLink2URL: http://www.st.com/internet/com/TECHNICAL_RESOURCES/TECHNICAL_LITERATURE/DATASHEET/DM00039193.pdf; ComponentLink3Description: STM32F0 Web Page; ComponentLink3URL: http://www.st.com/internet/mcu/subclass/1588.jsp
footprint LQFP64_N (Thin QFP, 64-Leads, Body 10x10mm, Pitch 0.5mm, IPC Medium Density)
footprint LQFP64_L (Thin QFP, 64-Leads, Body 10x10mm, Pitch 0.5mm, IPC High Density)
footprint LQFP64_M (Thin QFP, 64-Leads, Body 10x10mm, Pitch 0.5mm, IPC Low Density)
part A pins: 14 PA0, USART2_CTS, TIM2_CH1_ETR, COMP1_OUT, TSC_G1_IO1, ADC_IN0, COMP1_INM6, RTC_TAMP2, WKUP1 (io), 15 PA1, USART2_RTS, TIM2_CH2, TSC_G1_IO2, EVENTOUT, ADC_IN1, COMP1_INP (io), 16 PA2, USART2_TX, TIM2_CH3, TIM15_CH1, COMP2_OUT, TSC_G1_IO3, ADC_IN2, COMP2_INM6 (io), 17 PA3, USART2_RX, TIM2_CH4, TIM15_CH2, TSC_G1_IO4, ADC_IN3, COMP2_INP (io), 20 PA4, SPI1_NSS/I2S1_WS, USART2_CK, TIM14_CH1, TSC_G2_IO1, ADC_IN4, COMP1_INM4, COMP2_INM4, DAC1_OUT (io), 21 PA5, SPI1_SCK/I2S1_CK, CEC, TIM2_CH_ETR, TSC_G2_IO2, ADC_IN5, COMP1_INM5, COMP2_INM5 (io), 22 PA6, SPI1_MISO/I2S1_MCK, TIM3_CH1, TIM1_BKIN, TIM16_CH1, COMP1_OUT, TSC_G2_IO3, EVENTOUT, ADC_IN6 (io), 23 PA7, SPI1_MOSI/I2S1_SD, TIM3_CH2, TIM14_CH1, TIM1_CH1N, TIM17_CH1, COMP2_OUT, TSC_G2_IO4, EVENTOUT, ADC_IN7 (io), 26 PB0, TIM3_CH3, TIM1_CH2N, TSC_G3_IO2, EVENTOUT, ADC_IN8 (io), 27 PB1, TIM3_CH4, TIM14_CH1, TIM1_CH3N, TSC_G3_IO3, ADC_IN9 (io), 28 PB2, TSC_G3_IO4 (io), 29 PB10, I2C2_SCL, CEC, TIM2_CH3, TSC_SYNC (io), 30 PB11, I2C2_SDA, TIM2_CH4, TSC_G6_IO1, EVENTOUT (io), 33 PB12, SPI2_NSS, TIM1_BKIN, TSC_G6_IO2, EVENTOUT (io), 34 PB13, SPI2_SCK, TIM1_CH1N, TSC_G6_IO3 (io), 35 PB14, SPI2_MISO, TIM1_CH2N, TIM15_CH1, TSC_G6_IO4 (io), 36 PB15, SPI2_MOSI, TIM1_CH3N, TIM15_CH1N, TIM15_CH2, RTC_REFIN (io), 41 PA8, USART1_CK, TIM1_CH1, EVENTOUT, MCO (io), 42 PA9, USART1_TX, TIM1_CH2, TIM15_BKIN, TSC_G4_IO1 (io), 43 PA10, USART1_RX, TIM1_CH3, TIM17_BKIN, TSC_G4_IO2 (io), 44 PA11, USART1_CTS, TIM1_CH4, COMP1_OUT, TSC_G4_IO3, EVENTOUT (io), 45 PA12, USART1_RTS, TIM1_ETR, COMP2_OUT, TSC_G4_IO4, EVENTOUT (io), 46 PA13 (SWDAT), IR_OUT, SWDAT (io), 49 PA14 (SWCLK), USART2_TX, SWCLK (io), 50 PA15, SPI1_NSS/I2S1_WS, USART2_RX, TIM2_CH_ETR, EVENTOUT (io), 55 PB3, SPI1_SCK/I2S1_CK, TIM2_CH2, TSC_G5_IO1, EVENTOUT (io), 56 PB4, SPI1_MISO/I2S1_MCK, TIM3_CH1, TSC_G5_IO2, EVENTOUT (io), 57 PB5, SPI1_MOSI/I2S1_SD, I2C1_SMBA, TIM16_BKIN, TIM3_CH2 (io), 58 PB6, I2C1_SCL, USART1_TX, TIM16_CH1N, TSC_G5_IO3 (io), 59 PB7, I2C1_SDA, USART1_RX, TIM17_CH1N, TSC_G5_IO4 (io), 61 PB8, I2C1_SCL, CEC, TIM16_CH1, TSC_SYNC (io), 62 PB9, I2C1_SDA, IR_OUT, TIM17_CH1, EVENTOUT (io)
part B pins: 2 PC13, RTC_TAMP1, RTC_TS, RTC_OUT, WKUP2 (io), 3 PC14-OSC32_IN (PC14), OSC32_IN (io), 4 PC15-OSC32_OUT (PC15), OSC32_OUT (io), 5 PF0-OSC_IN (PF0), OSC_IN (io), 6 PF1-OSC_OUT (PF1), OSC_OUT (io), 7 NRST (io), 8 PC0, EVENTOUT, ADC_IN10 (io), 9 PC1, EVENTOUT, ADC_IN11 (io), 10 PC2, EVENTOUT, ADC_IN12 (io), 11 PC3, EVENTOUT, ADC_IN13 (io), 18 PF4EVENTOUT (io), 19 PF5EVENTOUT (io), 24 PC4, EVENTOUT, ADC_IN14 (io), 25 PC5, TSC_G3_IO1, ADC_IN15 (io), 37 PC6, TIM3_CH1 (io), 38 PC7, TIM3_CH2 (io), 39 PC8, TIM3_CH3 (io), 40 PC9, TIM3_CH4 (io), 47 PF6, I2C2_SCL (io), 48 PF7, I2C2_SDA (io), 51 PC10 (io), 52 PC11 (io), 53 PC12 (io), 54 PD2, TIM3_ETR (io), 60 BOOT0 (in)
part C pins: 1 VBAT (power), 12 VSSA (power), 13 VDDA (power), 31 VSS (power), 32 VDD (power), 63 VSS (power), 64 VDD (power)

## STM32F072CBT6
designator U?
联系卖家，免费查找封装: 唯一出售店铺网址https://shop463601444.taobao.com
footprint LQFP48_N
pins: 1 VBAT, 2 PC13, 3 PC14/OSC32_IN, 4 PC15/OSC32_OUT, 5 PF0/OSC_IN, 6 PF1/OSC_OUT, 7 NRST, 8 VSSA, 9 VDDA, 10 PA0, 11 PA1, 12 PA2, 13 PA3, 14 PA4, 15 PA5, 16 PA6, 17 PA7, 18 PB0, 19 PB1, 20 PB2, 21 PB10, 22 PB11, 23 VSS, 24 VDD, 25 PB12, 26 PB13, 27 PB14, 28 PB15, 29 PA8, 30 PA9, 31 PA10, 32 PA11, 33 PA12, 34 PA13, 35 VSS, 36 VDDIO, 37 PA14, 38 PA15, 39 PB3, 40 PB4, 41 PB5, 42 PB6, 43 PB7, 44 BOOT0, 45 PB8, 46 PB9, 47 VSS, 48 VDD

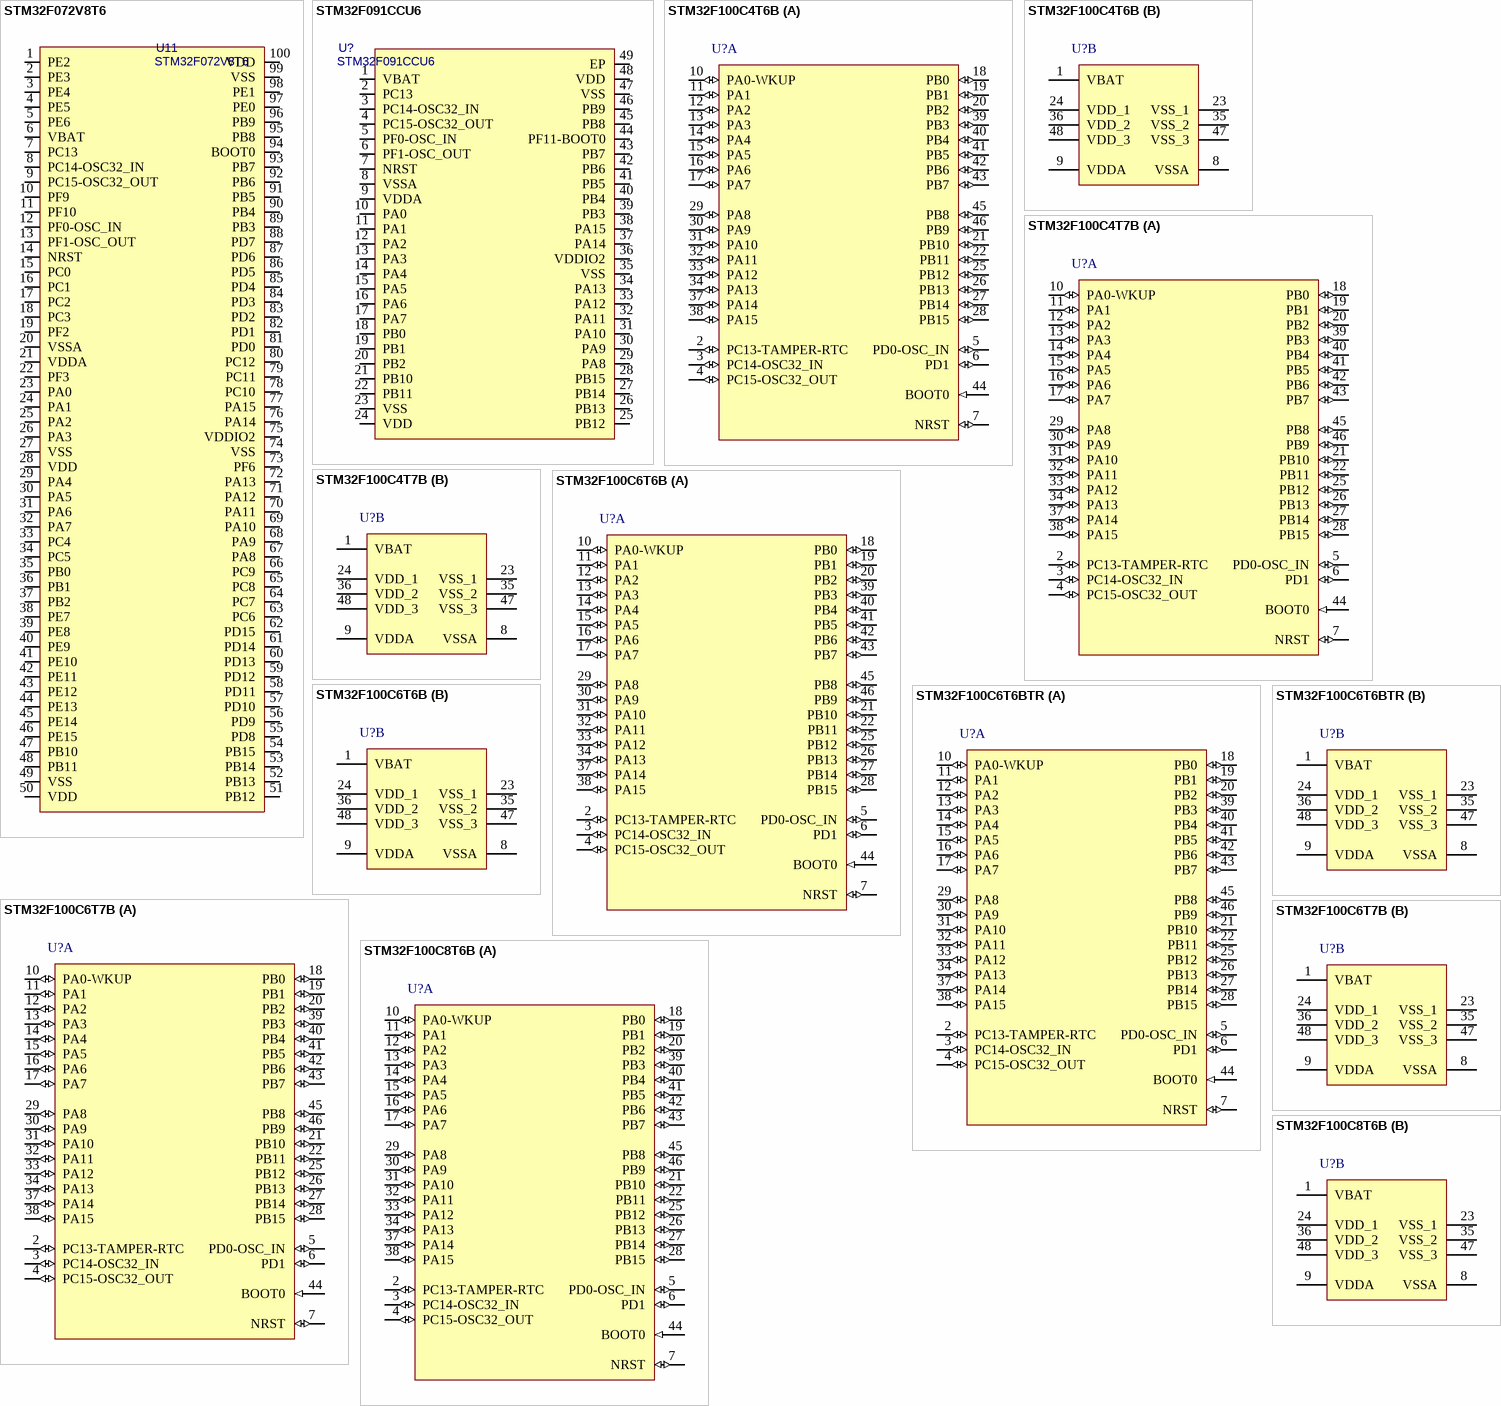
[diagram p9: symbols STM32F072V8T6 to STM32F100C8T6B]

## STM32F072V8T6
designator U11
联系卖家，免费查找封装: 唯一出售店铺网址https://shop463601444.taobao.com
footprint LQFP100_L
footprint LQFP100_N
footprint LQFP100_M
pins: 1 PE2, 2 PE3, 3 PE4, 4 PE5, 5 PE6, 6 VBAT, 7 PC13, 8 PC14-OSC32_IN, 9 PC15-OSC32_OUT, 10 PF9, 11 PF10, 12 PF0-OSC_IN, 13 PF1-OSC_OUT, 14 NRST, 15 PC0, 16 PC1, 17 PC2, 18 PC3, 19 PF2, 20 VSSA, 21 VDDA, 22 PF3, 23 PA0, 24 PA1, 25 PA2, 26 PA3, 27 VSS, 28 VDD, 29 PA4, 30 PA5, 31 PA6, 32 PA7, 33 PC4, 34 PC5, 35 PB0, 36 PB1, 37 PB2, 38 PE7, 39 PE8, 40 PE9, 41 PE10, 42 PE11, 43 PE12, 44 PE13, 45 PE14, 46 PE15, 47 PB10, 48 PB11, 49 VSS, 50 VDD, 51 PB12, 52 PB13, 53 PB14, 54 PB15, 55 PD8, 56 PD9, 57 PD10, 58 PD11, 59 PD12, 60 PD13, 61 PD14, 62 PD15, 63 PC6, 64 PC7, 65 PC8, 66 PC9, 67 PA8, 68 PA9, 69 PA10, 70 PA11, 71 PA12, 72 PA13, 73 PF6, 74 VSS, 75 VDDIO2, 76 PA14, 77 PA15, 78 PC10, 79 PC11, 80 PC12, 81 PD0, 82 PD1, 83 PD2, 84 PD3, 85 PD4, 86 PD5, 87 PD6, 88 PD7, 89 PB3, 90 PB4, 91 PB5, 92 PB6, 93 PB7, 94 BOOT0, 95 PB8, 96 PB9, 97 PE0, 98 PE1, 99 VSS, 100 VDD

## STM32F091CCU6
designator U?
联系卖家，免费查找封装: 唯一出售店铺网址https://shop463601444.taobao.com
footprint UFQFPN48_N
pins: 1 VBAT, 2 PC13, 3 PC14-OSC32_IN, 4 PC15-OSC32_OUT, 5 PF0-OSC_IN, 6 PF1-OSC_OUT, 7 NRST, 8 VSSA, 9 VDDA, 10 PA0, 11 PA1, 12 PA2, 13 PA3, 14 PA4, 15 PA5, 16 PA6, 17 PA7, 18 PB0, 19 PB1, 20 PB2, 21 PB10, 22 PB11, 23 VSS, 24 VDD, 25 PB12, 26 PB13, 27 PB14, 28 PB15, 29 PA8, 30 PA9, 31 PA10, 32 PA11, 33 PA12, 34 PA13, 35 VSS, 36 VDDIO2, 37 PA14, 38 PA15, 39 PB3, 40 PB4, 41 PB5, 42 PB6, 43 PB7, 44 PF11-BOOT0, 45 PB8, 46 PB9, 47 VSS, 48 VDD, 49 EP

## STM32F100C4T6B
designator U?
STM32 ARM-based 32-bit MCU Value Line with 16 kB Flash, 4 kB Internal RAM, Internal Code B, -40 to +85癈 Temperature, 48-Pin LQFP, Tray; 联系卖家，免费查找封装: 唯一出售店铺网址https://shop463601444.taobao.com; DatasheetVersion: rev6.0, Apr-2011; PackageVersion: rev13, Apr-2011; PackageReference: LQFP48; PackageDescription: 48-Pin Low-Profile Quad Flat Pack, 7 x 7 mm Body, 0.5 mm Pitch (LQFP48); ComponentLink1Description: Manufacturer URL; ComponentLink1URL: http://www.st.com/; ComponentLink2Description: STM32F100 Datasheet; ComponentLink2URL: http://www.st.com/internet/com/TECHNICAL_RESOURCES/TECHNICAL_LITERATURE/DATASHEET/CD00251732.pdf; ComponentLink3Description: STM32 Family Web Page; ComponentLink3URL: www.st.com/stm32
footprint LQFP48_N (Thin QFP, 48-Leads, Body 7x7mm, Pitch 0.5mm, IPC Medium Density)
footprint LQFP48_L (Thin QFP, 48-Leads, Body 7x7mm, Pitch 0.5mm, IPC High Density)
footprint LQFP48_M (Thin QFP, 48-Leads, Body 7x7mm, Pitch 0.5mm, IPC Low Density)
part A pins: 2 PC13-TAMPER-RTC (io), 3 PC14-OSC32_IN (io), 4 PC15-OSC32_OUT (io), 5 PD0-OSC_IN (io), 6 PD1 (io), 7 NRST (io), 10 PA0-WKUP (io), 11 PA1 (io), 12 PA2 (io), 13 PA3 (io), 14 PA4 (io), 15 PA5 (io), 16 PA6 (io), 17 PA7 (io), 18 PB0 (io), 19 PB1 (io), 20 PB2 (io), 21 PB10 (io), 22 PB11 (io), 25 PB12 (io), 26 PB13 (io), 27 PB14 (io), 28 PB15 (io), 29 PA8 (io), 30 PA9 (io), 31 PA10 (io), 32 PA11 (io), 33 PA12 (io), 34 PA13 (io), 37 PA14 (io), 38 PA15 (io), 39 PB3 (io), 40 PB4 (io), 41 PB5 (io), 42 PB6 (io), 43 PB7 (io), 44 BOOT0 (in), 45 PB8 (io), 46 PB9 (io)
part B pins: 1 VBAT (power), 8 VSSA (power), 9 VDDA (power), 23 VSS_1 (power), 24 VDD_1 (power), 35 VSS_2 (power), 36 VDD_2 (power), 47 VSS_3 (power), 48 VDD_3 (power)

## STM32F100C4T7B
designator U?
STM32 ARM-based 32-bit MCU Value Line with 16 kB Flash, 4 kB Internal RAM, Internal Code B, -40 to +105癈 Temperature, 48-Pin LQFP, Tray; 联系卖家，免费查找封装: 唯一出售店铺网址https://shop463601444.taobao.com; DatasheetVersion: rev6.0, Apr-2011; PackageVersion: rev13, Apr-2011; PackageReference: LQFP48; PackageDescription: 48-Pin Low-Profile Quad Flat Pack, 7 x 7 mm Body, 0.5 mm Pitch (LQFP48); ComponentLink1Description: Manufacturer URL; ComponentLink1URL: http://www.st.com/; ComponentLink2Description: STM32F100 Datasheet; ComponentLink2URL: http://www.st.com/internet/com/TECHNICAL_RESOURCES/TECHNICAL_LITERATURE/DATASHEET/CD00251732.pdf; ComponentLink3Description: STM32 Family Web Page; ComponentLink3URL: www.st.com/stm32
footprint LQFP48_N (Thin QFP, 48-Leads, Body 7x7mm, Pitch 0.5mm, IPC Medium Density)
footprint LQFP48_L (Thin QFP, 48-Leads, Body 7x7mm, Pitch 0.5mm, IPC High Density)
footprint LQFP48_M (Thin QFP, 48-Leads, Body 7x7mm, Pitch 0.5mm, IPC Low Density)
part A pins: 2 PC13-TAMPER-RTC (io), 3 PC14-OSC32_IN (io), 4 PC15-OSC32_OUT (io), 5 PD0-OSC_IN (io), 6 PD1 (io), 7 NRST (io), 10 PA0-WKUP (io), 11 PA1 (io), 12 PA2 (io), 13 PA3 (io), 14 PA4 (io), 15 PA5 (io), 16 PA6 (io), 17 PA7 (io), 18 PB0 (io), 19 PB1 (io), 20 PB2 (io), 21 PB10 (io), 22 PB11 (io), 25 PB12 (io), 26 PB13 (io), 27 PB14 (io), 28 PB15 (io), 29 PA8 (io), 30 PA9 (io), 31 PA10 (io), 32 PA11 (io), 33 PA12 (io), 34 PA13 (io), 37 PA14 (io), 38 PA15 (io), 39 PB3 (io), 40 PB4 (io), 41 PB5 (io), 42 PB6 (io), 43 PB7 (io), 44 BOOT0 (in), 45 PB8 (io), 46 PB9 (io)
part B pins: 1 VBAT (power), 8 VSSA (power), 9 VDDA (power), 23 VSS_1 (power), 24 VDD_1 (power), 35 VSS_2 (power), 36 VDD_2 (power), 47 VSS_3 (power), 48 VDD_3 (power)

## STM32F100C6T6B
designator U?
STM32 ARM-based 32-bit MCU Value Line with 32 kB Flash, 4 kB Internal RAM, Internal Code B, -40 to +85癈 Temperature, 48-Pin LQFP, Tray; 联系卖家，免费查找封装: 唯一出售店铺网址https://shop463601444.taobao.com; DatasheetVersion: rev6.0, Apr-2011; PackageVersion: rev13, Apr-2011; PackageReference: LQFP48; PackageDescription: 48-Pin Low-Profile Quad Flat Pack, 7 x 7 mm Body, 0.5 mm Pitch (LQFP48); ComponentLink1Description: Manufacturer URL; ComponentLink1URL: http://www.st.com/; ComponentLink2Description: STM32F100 Datasheet; ComponentLink2URL: http://www.st.com/internet/com/TECHNICAL_RESOURCES/TECHNICAL_LITERATURE/DATASHEET/CD00251732.pdf; ComponentLink3Description: STM32 Family Web Page; ComponentLink3URL: www.st.com/stm32
footprint LQFP48_N (Thin QFP, 48-Leads, Body 7x7mm, Pitch 0.5mm, IPC Medium Density)
footprint LQFP48_L (Thin QFP, 48-Leads, Body 7x7mm, Pitch 0.5mm, IPC High Density)
footprint LQFP48_M (Thin QFP, 48-Leads, Body 7x7mm, Pitch 0.5mm, IPC Low Density)
part A pins: 2 PC13-TAMPER-RTC (io), 3 PC14-OSC32_IN (io), 4 PC15-OSC32_OUT (io), 5 PD0-OSC_IN (io), 6 PD1 (io), 7 NRST (io), 10 PA0-WKUP (io), 11 PA1 (io), 12 PA2 (io), 13 PA3 (io), 14 PA4 (io), 15 PA5 (io), 16 PA6 (io), 17 PA7 (io), 18 PB0 (io), 19 PB1 (io), 20 PB2 (io), 21 PB10 (io), 22 PB11 (io), 25 PB12 (io), 26 PB13 (io), 27 PB14 (io), 28 PB15 (io), 29 PA8 (io), 30 PA9 (io), 31 PA10 (io), 32 PA11 (io), 33 PA12 (io), 34 PA13 (io), 37 PA14 (io), 38 PA15 (io), 39 PB3 (io), 40 PB4 (io), 41 PB5 (io), 42 PB6 (io), 43 PB7 (io), 44 BOOT0 (in), 45 PB8 (io), 46 PB9 (io)
part B pins: 1 VBAT (power), 8 VSSA (power), 9 VDDA (power), 23 VSS_1 (power), 24 VDD_1 (power), 35 VSS_2 (power), 36 VDD_2 (power), 47 VSS_3 (power), 48 VDD_3 (power)

## STM32F100C6T6BTR
designator U?
STM32 ARM-based 32-bit MCU Value Line with 32 kB Flash, 4 kB Internal RAM, Internal Code B, -40 to +85癈 Temperature, 48-Pin LQFP, Tape and Reel; 联系卖家，免费查找封装: 唯一出售店铺网址https://shop463601444.taobao.com; DatasheetVersion: rev6.0, Apr-2011; PackageVersion: rev13, Apr-2011; PackageReference: LQFP48; PackageDescription: 48-Pin Low-Profile Quad Flat Pack, 7 x 7 mm Body, 0.5 mm Pitch (LQFP48); ComponentLink1Description: Manufacturer URL; ComponentLink1URL: http://www.st.com/; ComponentLink2Description: STM32F100 Datasheet; ComponentLink2URL: http://www.st.com/internet/com/TECHNICAL_RESOURCES/TECHNICAL_LITERATURE/DATASHEET/CD00251732.pdf; ComponentLink3Description: STM32 Family Web Page; ComponentLink3URL: www.st.com/stm32
footprint LQFP48_N (Thin QFP, 48-Leads, Body 7x7mm, Pitch 0.5mm, IPC Medium Density)
footprint LQFP48_L (Thin QFP, 48-Leads, Body 7x7mm, Pitch 0.5mm, IPC High Density)
footprint LQFP48_M (Thin QFP, 48-Leads, Body 7x7mm, Pitch 0.5mm, IPC Low Density)
part A pins: 2 PC13-TAMPER-RTC (io), 3 PC14-OSC32_IN (io), 4 PC15-OSC32_OUT (io), 5 PD0-OSC_IN (io), 6 PD1 (io), 7 NRST (io), 10 PA0-WKUP (io), 11 PA1 (io), 12 PA2 (io), 13 PA3 (io), 14 PA4 (io), 15 PA5 (io), 16 PA6 (io), 17 PA7 (io), 18 PB0 (io), 19 PB1 (io), 20 PB2 (io), 21 PB10 (io), 22 PB11 (io), 25 PB12 (io), 26 PB13 (io), 27 PB14 (io), 28 PB15 (io), 29 PA8 (io), 30 PA9 (io), 31 PA10 (io), 32 PA11 (io), 33 PA12 (io), 34 PA13 (io), 37 PA14 (io), 38 PA15 (io), 39 PB3 (io), 40 PB4 (io), 41 PB5 (io), 42 PB6 (io), 43 PB7 (io), 44 BOOT0 (in), 45 PB8 (io), 46 PB9 (io)
part B pins: 1 VBAT (power), 8 VSSA (power), 9 VDDA (power), 23 VSS_1 (power), 24 VDD_1 (power), 35 VSS_2 (power), 36 VDD_2 (power), 47 VSS_3 (power), 48 VDD_3 (power)

## STM32F100C6T7B
designator U?
STM32 ARM-based 32-bit MCU Value Line with 32 kB Flash, 4 kB Internal RAM, Internal Code B, -40 to +105癈 Temperature, 48-Pin LQFP, Tray; 联系卖家，免费查找封装: 唯一出售店铺网址https://shop463601444.taobao.com; DatasheetVersion: rev6.0, Apr-2011; PackageVersion: rev13, Apr-2011; PackageReference: LQFP48; PackageDescription: 48-Pin Low-Profile Quad Flat Pack, 7 x 7 mm Body, 0.5 mm Pitch (LQFP48); ComponentLink1Description: Manufacturer URL; ComponentLink1URL: http://www.st.com/; ComponentLink2Description: STM32F100 Datasheet; ComponentLink2URL: http://www.st.com/internet/com/TECHNICAL_RESOURCES/TECHNICAL_LITERATURE/DATASHEET/CD00251732.pdf; ComponentLink3Description: STM32 Family Web Page; ComponentLink3URL: www.st.com/stm32
footprint LQFP48_N (Thin QFP, 48-Leads, Body 7x7mm, Pitch 0.5mm, IPC Medium Density)
footprint LQFP48_L (Thin QFP, 48-Leads, Body 7x7mm, Pitch 0.5mm, IPC High Density)
footprint LQFP48_M (Thin QFP, 48-Leads, Body 7x7mm, Pitch 0.5mm, IPC Low Density)
part A pins: 2 PC13-TAMPER-RTC (io), 3 PC14-OSC32_IN (io), 4 PC15-OSC32_OUT (io), 5 PD0-OSC_IN (io), 6 PD1 (io), 7 NRST (io), 10 PA0-WKUP (io), 11 PA1 (io), 12 PA2 (io), 13 PA3 (io), 14 PA4 (io), 15 PA5 (io), 16 PA6 (io), 17 PA7 (io), 18 PB0 (io), 19 PB1 (io), 20 PB2 (io), 21 PB10 (io), 22 PB11 (io), 25 PB12 (io), 26 PB13 (io), 27 PB14 (io), 28 PB15 (io), 29 PA8 (io), 30 PA9 (io), 31 PA10 (io), 32 PA11 (io), 33 PA12 (io), 34 PA13 (io), 37 PA14 (io), 38 PA15 (io), 39 PB3 (io), 40 PB4 (io), 41 PB5 (io), 42 PB6 (io), 43 PB7 (io), 44 BOOT0 (in), 45 PB8 (io), 46 PB9 (io)
part B pins: 1 VBAT (power), 8 VSSA (power), 9 VDDA (power), 23 VSS_1 (power), 24 VDD_1 (power), 35 VSS_2 (power), 36 VDD_2 (power), 47 VSS_3 (power), 48 VDD_3 (power)

## STM32F100C8T6B
designator U?
STM32 ARM-based 32-bit MCU Value Line with 64 kB Flash, 8 kB Internal RAM, Internal Code B, -40 to +85癈 Temperature, 48-Pin LQFP, Tray; 联系卖家，免费查找封装: 唯一出售店铺网址https://shop463601444.taobao.com; DatasheetVersion: rev6.0, Apr-2011; PackageVersion: rev13, Apr-2011; PackageReference: LQFP48; PackageDescription: 48-Pin Low-Profile Quad Flat Pack, 7 x 7 mm Body, 0.5 mm Pitch (LQFP48); ComponentLink1Description: Manufacturer URL; ComponentLink1URL: http://www.st.com/; ComponentLink2Description: STM32F100 Datasheet; ComponentLink2URL: http://www.st.com/internet/com/TECHNICAL_RESOURCES/TECHNICAL_LITERATURE/DATASHEET/CD00251732.pdf; ComponentLink3Description: STM32 Family Web Page; ComponentLink3URL: www.st.com/stm32
footprint LQFP48_N (Thin QFP, 48-Leads, Body 7x7mm, Pitch 0.5mm, IPC Medium Density)
footprint LQFP48_L (Thin QFP, 48-Leads, Body 7x7mm, Pitch 0.5mm, IPC High Density)
footprint LQFP48_M (Thin QFP, 48-Leads, Body 7x7mm, Pitch 0.5mm, IPC Low Density)
part A pins: 2 PC13-TAMPER-RTC (io), 3 PC14-OSC32_IN (io), 4 PC15-OSC32_OUT (io), 5 PD0-OSC_IN (io), 6 PD1 (io), 7 NRST (io), 10 PA0-WKUP (io), 11 PA1 (io), 12 PA2 (io), 13 PA3 (io), 14 PA4 (io), 15 PA5 (io), 16 PA6 (io), 17 PA7 (io), 18 PB0 (io), 19 PB1 (io), 20 PB2 (io), 21 PB10 (io), 22 PB11 (io), 25 PB12 (io), 26 PB13 (io), 27 PB14 (io), 28 PB15 (io), 29 PA8 (io), 30 PA9 (io), 31 PA10 (io), 32 PA11 (io), 33 PA12 (io), 34 PA13 (io), 37 PA14 (io), 38 PA15 (io), 39 PB3 (io), 40 PB4 (io), 41 PB5 (io), 42 PB6 (io), 43 PB7 (io), 44 BOOT0 (in), 45 PB8 (io), 46 PB9 (io)
part B pins: 1 VBAT (power), 8 VSSA (power), 9 VDDA (power), 23 VSS_1 (power), 24 VDD_1 (power), 35 VSS_2 (power), 36 VDD_2 (power), 47 VSS_3 (power), 48 VDD_3 (power)

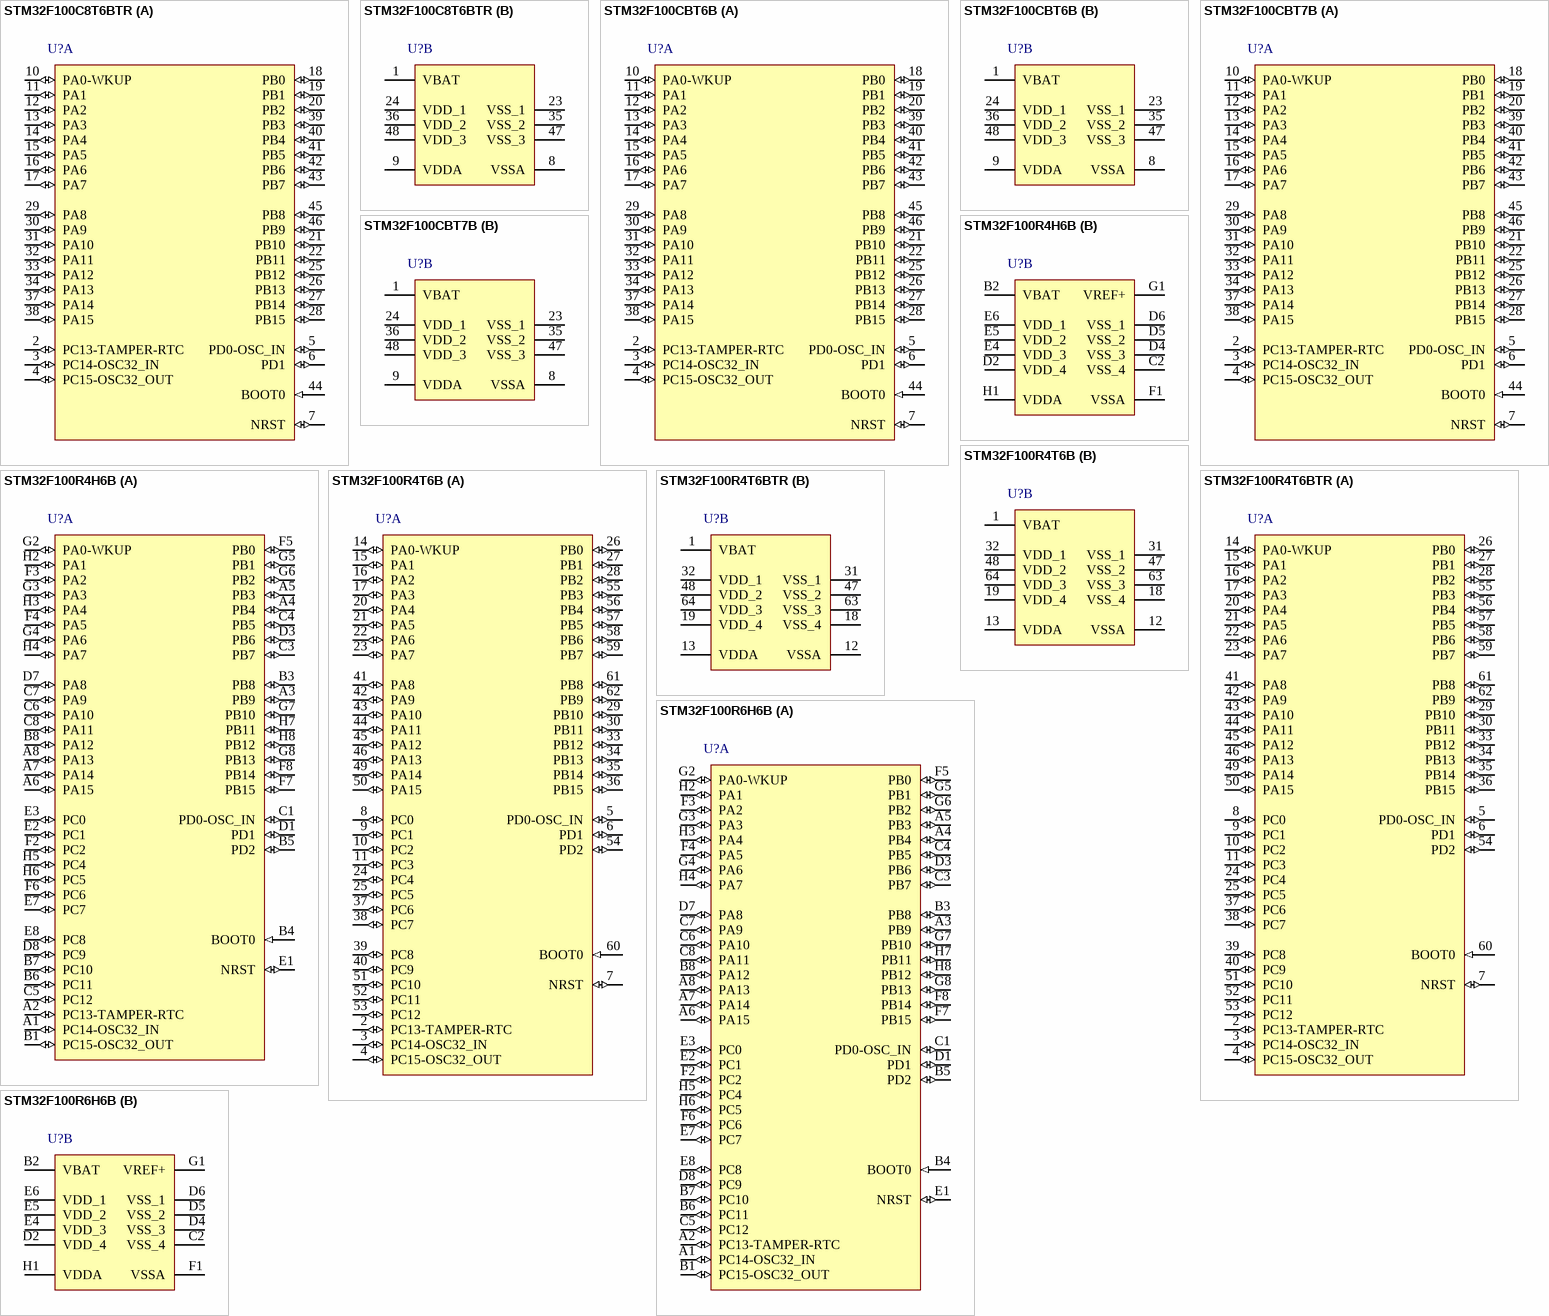
[diagram p10: symbols STM32F100C8T6BTR to STM32F100R6H6B]

## STM32F100C8T6BTR
designator U?
STM32 ARM-based 32-bit MCU Value Line with 64 kB Flash, 8 kB Internal RAM, Internal Code B, -40 to +85癈 Temperature, 48-Pin LQFP, Tape and Reel; 联系卖家，免费查找封装: 唯一出售店铺网址https://shop463601444.taobao.com; DatasheetVersion: rev6.0, Apr-2011; PackageVersion: rev13, Apr-2011; PackageReference: LQFP48; PackageDescription: 48-Pin Low-Profile Quad Flat Pack, 7 x 7 mm Body, 0.5 mm Pitch (LQFP48); ComponentLink1Description: Manufacturer URL; ComponentLink1URL: http://www.st.com/; ComponentLink2Description: STM32F100 Datasheet; ComponentLink2URL: http://www.st.com/internet/com/TECHNICAL_RESOURCES/TECHNICAL_LITERATURE/DATASHEET/CD00251732.pdf; ComponentLink3Description: STM32 Family Web Page; ComponentLink3URL: www.st.com/stm32
footprint LQFP48_N (Thin QFP, 48-Leads, Body 7x7mm, Pitch 0.5mm, IPC Medium Density)
footprint LQFP48_L (Thin QFP, 48-Leads, Body 7x7mm, Pitch 0.5mm, IPC High Density)
footprint LQFP48_M (Thin QFP, 48-Leads, Body 7x7mm, Pitch 0.5mm, IPC Low Density)
part A pins: 2 PC13-TAMPER-RTC (io), 3 PC14-OSC32_IN (io), 4 PC15-OSC32_OUT (io), 5 PD0-OSC_IN (io), 6 PD1 (io), 7 NRST (io), 10 PA0-WKUP (io), 11 PA1 (io), 12 PA2 (io), 13 PA3 (io), 14 PA4 (io), 15 PA5 (io), 16 PA6 (io), 17 PA7 (io), 18 PB0 (io), 19 PB1 (io), 20 PB2 (io), 21 PB10 (io), 22 PB11 (io), 25 PB12 (io), 26 PB13 (io), 27 PB14 (io), 28 PB15 (io), 29 PA8 (io), 30 PA9 (io), 31 PA10 (io), 32 PA11 (io), 33 PA12 (io), 34 PA13 (io), 37 PA14 (io), 38 PA15 (io), 39 PB3 (io), 40 PB4 (io), 41 PB5 (io), 42 PB6 (io), 43 PB7 (io), 44 BOOT0 (in), 45 PB8 (io), 46 PB9 (io)
part B pins: 1 VBAT (power), 8 VSSA (power), 9 VDDA (power), 23 VSS_1 (power), 24 VDD_1 (power), 35 VSS_2 (power), 36 VDD_2 (power), 47 VSS_3 (power), 48 VDD_3 (power)

## STM32F100CBT6B
designator U?
STM32 ARM-based 32-bit MCU Value Line with 128 kB Flash, 8 kB Internal RAM, Internal Code B, -40 to +85癈 Temperature, 48-Pin LQFP, Tray; 联系卖家，免费查找封装: 唯一出售店铺网址https://shop463601444.taobao.com; DatasheetVersion: rev6.0, Apr-2011; PackageVersion: rev13, Apr-2011; PackageReference: LQFP48; PackageDescription: 48-Pin Low-Profile Quad Flat Pack, 7 x 7 mm Body, 0.5 mm Pitch (LQFP48); ComponentLink1Description: Manufacturer URL; ComponentLink1URL: http://www.st.com/; ComponentLink2Description: STM32F100 Datasheet; ComponentLink2URL: http://www.st.com/internet/com/TECHNICAL_RESOURCES/TECHNICAL_LITERATURE/DATASHEET/CD00251732.pdf; ComponentLink3Description: STM32 Family Web Page; ComponentLink3URL: www.st.com/stm32
footprint LQFP48_N (Thin QFP, 48-Leads, Body 7x7mm, Pitch 0.5mm, IPC Medium Density)
footprint LQFP48_L (Thin QFP, 48-Leads, Body 7x7mm, Pitch 0.5mm, IPC High Density)
footprint LQFP48_M (Thin QFP, 48-Leads, Body 7x7mm, Pitch 0.5mm, IPC Low Density)
part A pins: 2 PC13-TAMPER-RTC (io), 3 PC14-OSC32_IN (io), 4 PC15-OSC32_OUT (io), 5 PD0-OSC_IN (io), 6 PD1 (io), 7 NRST (io), 10 PA0-WKUP (io), 11 PA1 (io), 12 PA2 (io), 13 PA3 (io), 14 PA4 (io), 15 PA5 (io), 16 PA6 (io), 17 PA7 (io), 18 PB0 (io), 19 PB1 (io), 20 PB2 (io), 21 PB10 (io), 22 PB11 (io), 25 PB12 (io), 26 PB13 (io), 27 PB14 (io), 28 PB15 (io), 29 PA8 (io), 30 PA9 (io), 31 PA10 (io), 32 PA11 (io), 33 PA12 (io), 34 PA13 (io), 37 PA14 (io), 38 PA15 (io), 39 PB3 (io), 40 PB4 (io), 41 PB5 (io), 42 PB6 (io), 43 PB7 (io), 44 BOOT0 (in), 45 PB8 (io), 46 PB9 (io)
part B pins: 1 VBAT (power), 8 VSSA (power), 9 VDDA (power), 23 VSS_1 (power), 24 VDD_1 (power), 35 VSS_2 (power), 36 VDD_2 (power), 47 VSS_3 (power), 48 VDD_3 (power)

## STM32F100CBT7B
designator U?
STM32 ARM-based 32-bit MCU Value Line with 128 kB Flash, 8 kB Internal RAM, Internal Code B, -40 to +105癈 Temperature, 48-Pin LQFP, Tray; 联系卖家，免费查找封装: 唯一出售店铺网址https://shop463601444.taobao.com; DatasheetVersion: rev6.0, Apr-2011; PackageVersion: rev13, Apr-2011; PackageReference: LQFP48; PackageDescription: 48-Pin Low-Profile Quad Flat Pack, 7 x 7 mm Body, 0.5 mm Pitch (LQFP48); ComponentLink1Description: Manufacturer URL; ComponentLink1URL: http://www.st.com/; ComponentLink2Description: STM32F100 Datasheet; ComponentLink2URL: http://www.st.com/internet/com/TECHNICAL_RESOURCES/TECHNICAL_LITERATURE/DATASHEET/CD00251732.pdf; ComponentLink3Description: STM32 Family Web Page; ComponentLink3URL: www.st.com/stm32
footprint LQFP48_N (Thin QFP, 48-Leads, Body 7x7mm, Pitch 0.5mm, IPC Medium Density)
footprint LQFP48_L (Thin QFP, 48-Leads, Body 7x7mm, Pitch 0.5mm, IPC High Density)
footprint LQFP48_M (Thin QFP, 48-Leads, Body 7x7mm, Pitch 0.5mm, IPC Low Density)
part A pins: 2 PC13-TAMPER-RTC (io), 3 PC14-OSC32_IN (io), 4 PC15-OSC32_OUT (io), 5 PD0-OSC_IN (io), 6 PD1 (io), 7 NRST (io), 10 PA0-WKUP (io), 11 PA1 (io), 12 PA2 (io), 13 PA3 (io), 14 PA4 (io), 15 PA5 (io), 16 PA6 (io), 17 PA7 (io), 18 PB0 (io), 19 PB1 (io), 20 PB2 (io), 21 PB10 (io), 22 PB11 (io), 25 PB12 (io), 26 PB13 (io), 27 PB14 (io), 28 PB15 (io), 29 PA8 (io), 30 PA9 (io), 31 PA10 (io), 32 PA11 (io), 33 PA12 (io), 34 PA13 (io), 37 PA14 (io), 38 PA15 (io), 39 PB3 (io), 40 PB4 (io), 41 PB5 (io), 42 PB6 (io), 43 PB7 (io), 44 BOOT0 (in), 45 PB8 (io), 46 PB9 (io)
part B pins: 1 VBAT (power), 8 VSSA (power), 9 VDDA (power), 23 VSS_1 (power), 24 VDD_1 (power), 35 VSS_2 (power), 36 VDD_2 (power), 47 VSS_3 (power), 48 VDD_3 (power)

## STM32F100R4H6B
designator U?
STM32 ARM-based 32-bit MCU Value Line with 16 kB Flash, 4 kB Internal RAM, Internal Code B, -40 to +85癈 Temperature, 64-Pin TFBGA, Tray; 联系卖家，免费查找封装: 唯一出售店铺网址https://shop463601444.taobao.com; DatasheetVersion: rev6.0, Apr-2011; PackageVersion: 2011; PackageReference: TFBGA64; PackageDescription: 64-Ball Thin Fine-Pitch BGA (8x8 Array), 5 x 5 mm Body, 0.5 mm Pitch; ComponentLink1Description: Manufacturer URL; ComponentLink1URL: http://www.st.com/; ComponentLink2Description: STM32F100 Datasheet; ComponentLink2URL: http://www.st.com/internet/com/TECHNICAL_RESOURCES/TECHNICAL_LITERATURE/DATASHEET/CD00251732.pdf; ComponentLink3Description: STM32 Family Web Page; ComponentLink3URL: www.st.com/stm32
footprint TFBGA64 (BGA, 64-Leads, Body 5x5mm, Pitch 0.5mm)
part A pins: A1 PC14-OSC32_IN (io), A2 PC13-TAMPER-RTC (io), A3 PB9 (io), A4 PB4 (io), A5 PB3 (io), A6 PA15 (io), A7 PA14 (io), A8 PA13 (io), B1 PC15-OSC32_OUT (io), B3 PB8 (io), B4 BOOT0 (in), B5 PD2 (io), B6 PC11 (io), B7 PC10 (io), B8 PA12 (io), C1 PD0-OSC_IN (io), C3 PB7 (io), C4 PB5 (io), C5 PC12 (io), C6 PA10 (io), C7 PA9 (io), C8 PA11 (io), D1 PD1 (io), D3 PB6 (io), D7 PA8 (io), D8 PC9 (io), E1 NRST (io), E2 PC1 (io), E3 PC0 (io), E7 PC7 (io), E8 PC8 (io), F2 PC2 (io), F3 PA2 (io), F4 PA5 (io), F5 PB0 (io), F6 PC6 (io), F7 PB15 (io), F8 PB14 (io), G2 PA0-WKUP (io), G3 PA3 (io), G4 PA6 (io), G5 PB1 (io), G6 PB2 (io), G7 PB10 (io), G8 PB13 (io), H2 PA1 (io), H3 PA4 (io), H4 PA7 (io), H5 PC4 (io), H6 PC5 (io), H7 PB11 (io), H8 PB12 (io)
part B pins: B2 VBAT (power), C2 VSS_4 (power), D2 VDD_4 (power), D4 VSS_3 (power), D5 VSS_2 (power), D6 VSS_1 (power), E4 VDD_3 (power), E5 VDD_2 (power), E6 VDD_1 (power), F1 VSSA (power), G1 VREF+ (power), H1 VDDA (power)

## STM32F100R4T6B
designator U?
STM32 ARM-based 32-bit MCU Value Line with 16 kB Flash, 4 kB Internal RAM, Internal Code B, -40 to +85癈 Temperature, 64-Pin LQFP, Tray; 联系卖家，免费查找封装: 唯一出售店铺网址https://shop463601444.taobao.com; DatasheetVersion: rev6.0, Apr-2011; PackageVersion: rev13, Apr-2011; PackageReference: LQFP64; PackageDescription: 64-Pin Low-Profile Quad Flat Pack, 10 x 10 mm Body, 0.5 mm Pitch (LQFP64); ComponentLink1Description: Manufacturer URL; ComponentLink1URL: http://www.st.com/; ComponentLink2Description: STM32F100 Datasheet; ComponentLink2URL: http://www.st.com/internet/com/TECHNICAL_RESOURCES/TECHNICAL_LITERATURE/DATASHEET/CD00251732.pdf; ComponentLink3Description: STM32 Family Web Page; ComponentLink3URL: www.st.com/stm32
footprint LQFP64_N (Thin QFP, 64-Leads, Body 10x10mm, Pitch 0.5mm, IPC Medium Density)
footprint LQFP64_L (Thin QFP, 64-Leads, Body 10x10mm, Pitch 0.5mm, IPC High Density)
footprint LQFP64_M (Thin QFP, 64-Leads, Body 10x10mm, Pitch 0.5mm, IPC Low Density)
part A pins: 2 PC13-TAMPER-RTC (io), 3 PC14-OSC32_IN (io), 4 PC15-OSC32_OUT (io), 5 PD0-OSC_IN (io), 6 PD1 (io), 7 NRST (io), 8 PC0 (io), 9 PC1 (io), 10 PC2 (io), 11 PC3 (io), 14 PA0-WKUP (io), 15 PA1 (io), 16 PA2 (io), 17 PA3 (io), 20 PA4 (io), 21 PA5 (io), 22 PA6 (io), 23 PA7 (io), 24 PC4 (io), 25 PC5 (io), 26 PB0 (io), 27 PB1 (io), 28 PB2 (io), 29 PB10 (io), 30 PB11 (io), 33 PB12 (io), 34 PB13 (io), 35 PB14 (io), 36 PB15 (io), 37 PC6 (io), 38 PC7 (io), 39 PC8 (io), 40 PC9 (io), 41 PA8 (io), 42 PA9 (io), 43 PA10 (io), 44 PA11 (io), 45 PA12 (io), 46 PA13 (io), 49 PA14 (io), 50 PA15 (io), 51 PC10 (io), 52 PC11 (io), 53 PC12 (io), 54 PD2 (io), 55 PB3 (io), 56 PB4 (io), 57 PB5 (io), 58 PB6 (io), 59 PB7 (io), 60 BOOT0 (in), 61 PB8 (io), 62 PB9 (io)
part B pins: 1 VBAT (power), 12 VSSA (power), 13 VDDA (power), 18 VSS_4 (power), 19 VDD_4 (power), 31 VSS_1 (power), 32 VDD_1 (power), 47 VSS_2 (power), 48 VDD_2 (power), 63 VSS_3 (power), 64 VDD_3 (power)

## STM32F100R4T6BTR
designator U?
STM32 ARM-based 32-bit MCU Value Line with 16 kB Flash, 4 kB Internal RAM, Internal Code B, -40 to +85癈 Temperature, 64-Pin LQFP, Tape and Reel; 联系卖家，免费查找封装: 唯一出售店铺网址https://shop463601444.taobao.com; DatasheetVersion: rev6.0, Apr-2011; PackageVersion: rev13, Apr-2011; PackageReference: LQFP64; PackageDescription: 64-Pin Low-Profile Quad Flat Pack, 10 x 10 mm Body, 0.5 mm Pitch (LQFP64); ComponentLink1Description: Manufacturer URL; ComponentLink1URL: http://www.st.com/; ComponentLink2Description: STM32F100 Datasheet; ComponentLink2URL: http://www.st.com/internet/com/TECHNICAL_RESOURCES/TECHNICAL_LITERATURE/DATASHEET/CD00251732.pdf; ComponentLink3Description: STM32 Family Web Page; ComponentLink3URL: www.st.com/stm32
footprint LQFP64_N (Thin QFP, 64-Leads, Body 10x10mm, Pitch 0.5mm, IPC Medium Density)
footprint LQFP64_L (Thin QFP, 64-Leads, Body 10x10mm, Pitch 0.5mm, IPC High Density)
footprint LQFP64_M (Thin QFP, 64-Leads, Body 10x10mm, Pitch 0.5mm, IPC Low Density)
part A pins: 2 PC13-TAMPER-RTC (io), 3 PC14-OSC32_IN (io), 4 PC15-OSC32_OUT (io), 5 PD0-OSC_IN (io), 6 PD1 (io), 7 NRST (io), 8 PC0 (io), 9 PC1 (io), 10 PC2 (io), 11 PC3 (io), 14 PA0-WKUP (io), 15 PA1 (io), 16 PA2 (io), 17 PA3 (io), 20 PA4 (io), 21 PA5 (io), 22 PA6 (io), 23 PA7 (io), 24 PC4 (io), 25 PC5 (io), 26 PB0 (io), 27 PB1 (io), 28 PB2 (io), 29 PB10 (io), 30 PB11 (io), 33 PB12 (io), 34 PB13 (io), 35 PB14 (io), 36 PB15 (io), 37 PC6 (io), 38 PC7 (io), 39 PC8 (io), 40 PC9 (io), 41 PA8 (io), 42 PA9 (io), 43 PA10 (io), 44 PA11 (io), 45 PA12 (io), 46 PA13 (io), 49 PA14 (io), 50 PA15 (io), 51 PC10 (io), 52 PC11 (io), 53 PC12 (io), 54 PD2 (io), 55 PB3 (io), 56 PB4 (io), 57 PB5 (io), 58 PB6 (io), 59 PB7 (io), 60 BOOT0 (in), 61 PB8 (io), 62 PB9 (io)
part B pins: 1 VBAT (power), 12 VSSA (power), 13 VDDA (power), 18 VSS_4 (power), 19 VDD_4 (power), 31 VSS_1 (power), 32 VDD_1 (power), 47 VSS_2 (power), 48 VDD_2 (power), 63 VSS_3 (power), 64 VDD_3 (power)

## STM32F100R6H6B
designator U?
STM32 ARM-based 32-bit MCU Value Line with 32 kB Flash, 4 kB Internal RAM, Internal Code B, -40 to +85癈 Temperature, 64-Pin TFBGA, Tray; 联系卖家，免费查找封装: 唯一出售店铺网址https://shop463601444.taobao.com; DatasheetVersion: rev6.0, Apr-2011; PackageVersion: 2011; PackageReference: TFBGA64; PackageDescription: 64-Ball Thin Fine-Pitch BGA (8x8 Array), 5 x 5 mm Body, 0.5 mm Pitch; ComponentLink1Description: Manufacturer URL; ComponentLink1URL: http://www.st.com/; ComponentLink2Description: STM32F100 Datasheet; ComponentLink2URL: http://www.st.com/internet/com/TECHNICAL_RESOURCES/TECHNICAL_LITERATURE/DATASHEET/CD00251732.pdf; ComponentLink3Description: STM32 Family Web Page; ComponentLink3URL: www.st.com/stm32
footprint TFBGA64 (BGA, 64-Leads, Body 5x5mm, Pitch 0.5mm)
part A pins: A1 PC14-OSC32_IN (io), A2 PC13-TAMPER-RTC (io), A3 PB9 (io), A4 PB4 (io), A5 PB3 (io), A6 PA15 (io), A7 PA14 (io), A8 PA13 (io), B1 PC15-OSC32_OUT (io), B3 PB8 (io), B4 BOOT0 (in), B5 PD2 (io), B6 PC11 (io), B7 PC10 (io), B8 PA12 (io), C1 PD0-OSC_IN (io), C3 PB7 (io), C4 PB5 (io), C5 PC12 (io), C6 PA10 (io), C7 PA9 (io), C8 PA11 (io), D1 PD1 (io), D3 PB6 (io), D7 PA8 (io), D8 PC9 (io), E1 NRST (io), E2 PC1 (io), E3 PC0 (io), E7 PC7 (io), E8 PC8 (io), F2 PC2 (io), F3 PA2 (io), F4 PA5 (io), F5 PB0 (io), F6 PC6 (io), F7 PB15 (io), F8 PB14 (io), G2 PA0-WKUP (io), G3 PA3 (io), G4 PA6 (io), G5 PB1 (io), G6 PB2 (io), G7 PB10 (io), G8 PB13 (io), H2 PA1 (io), H3 PA4 (io), H4 PA7 (io), H5 PC4 (io), H6 PC5 (io), H7 PB11 (io), H8 PB12 (io)
part B pins: B2 VBAT (power), C2 VSS_4 (power), D2 VDD_4 (power), D4 VSS_3 (power), D5 VSS_2 (power), D6 VSS_1 (power), E4 VDD_3 (power), E5 VDD_2 (power), E6 VDD_1 (power), F1 VSSA (power), G1 VREF+ (power), H1 VDDA (power)

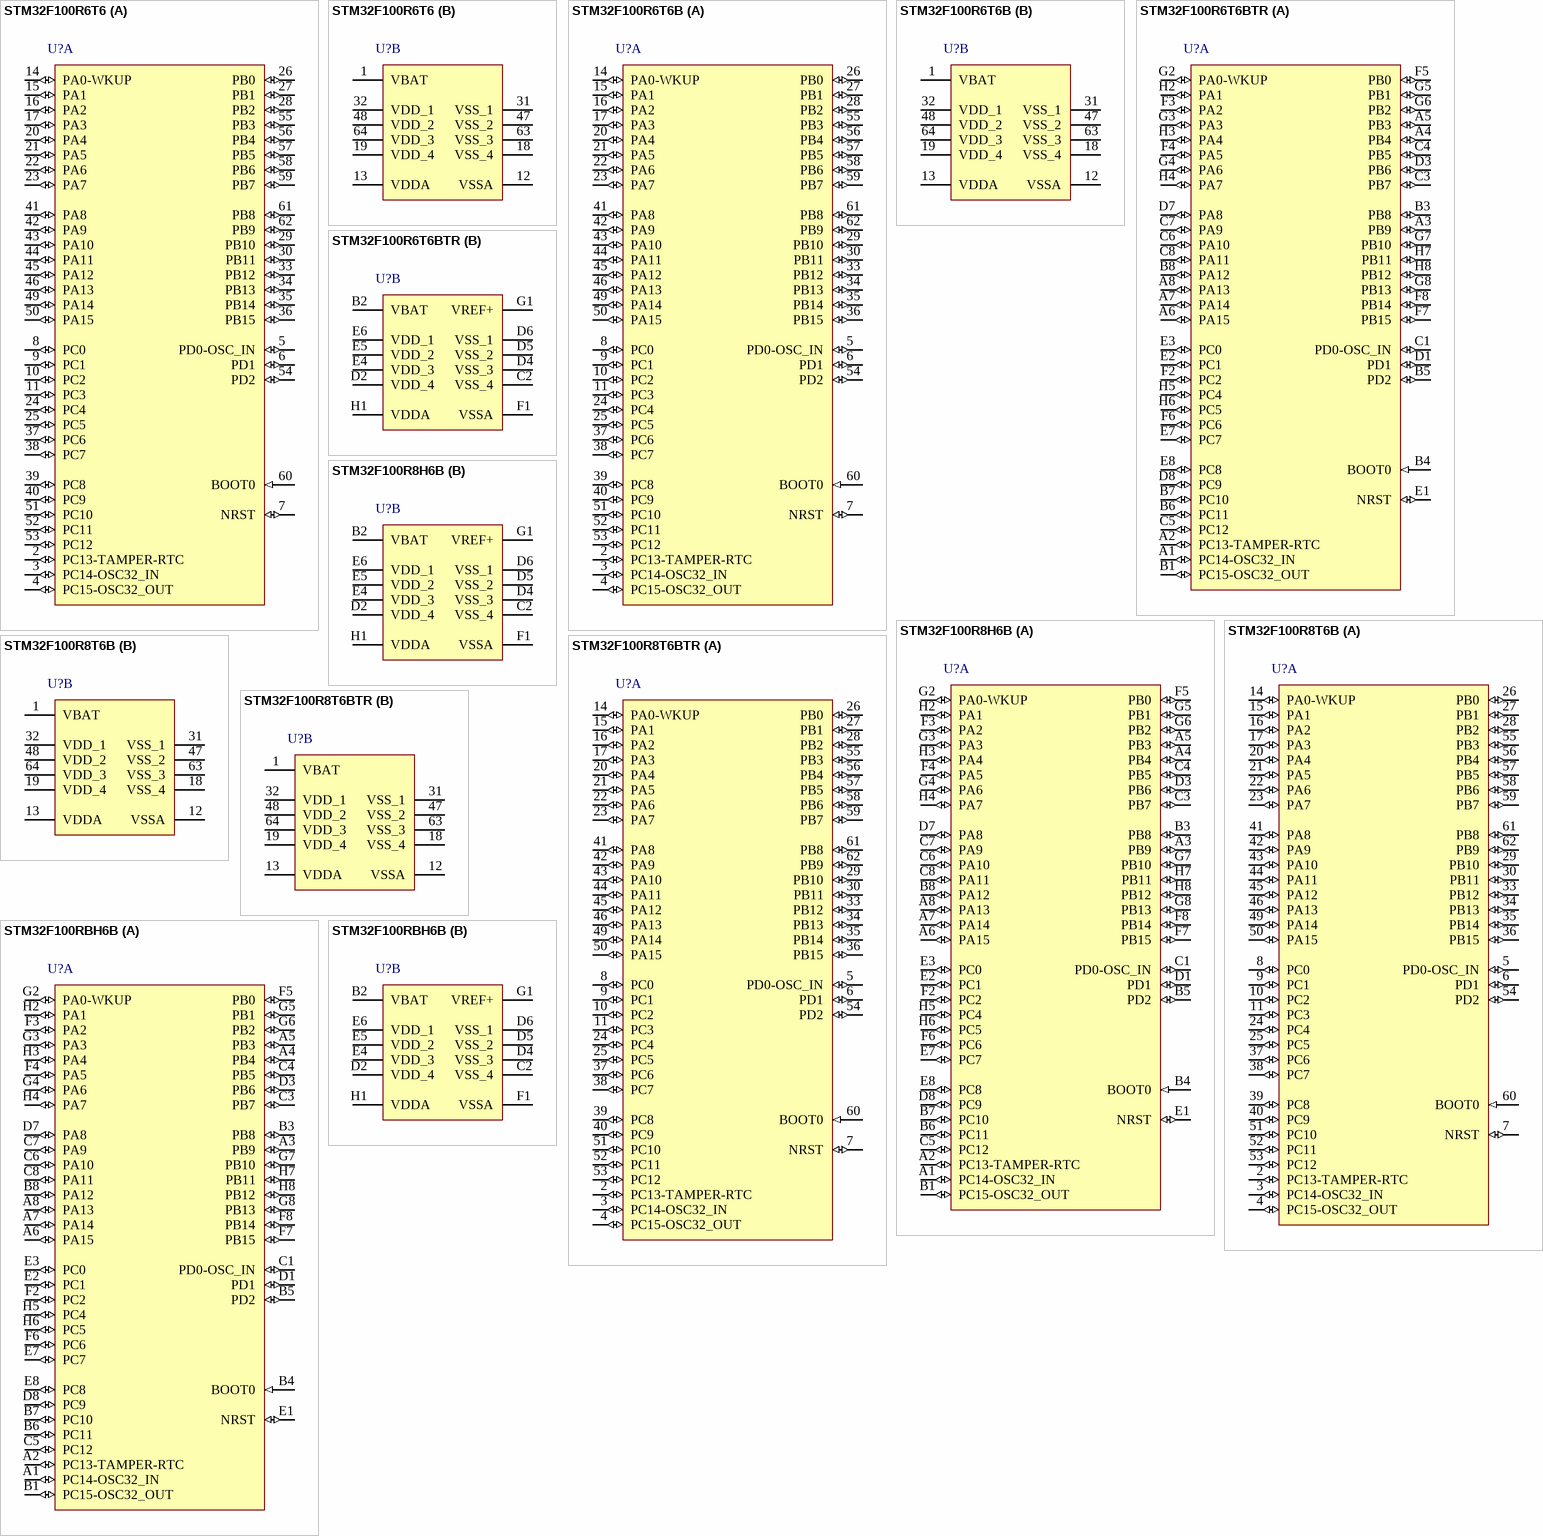
[diagram p11: symbols STM32F100R6T6 to STM32F100RBH6B]

## STM32F100R6T6
designator U?
STM32 ARM-based 32-bit MCU Value Line with 32 kB Flash, 4 kB Internal RAM, -40 to +85癈 Temperature, 64-Pin LQFP, Tray; 联系卖家，免费查找封装: 唯一出售店铺网址https://shop463601444.taobao.com; DatasheetVersion: rev6.0, Apr-2011; PackageVersion: rev13, Apr-2011; PackageReference: LQFP64; PackageDescription: 64-Pin Low-Profile Quad Flat Pack, 10 x 10 mm Body, 0.5 mm Pitch (LQFP64); ComponentLink1Description: Manufacturer URL; ComponentLink1URL: http://www.st.com/; ComponentLink2Description: STM32F100 Datasheet; ComponentLink2URL: http://www.st.com/internet/com/TECHNICAL_RESOURCES/TECHNICAL_LITERATURE/DATASHEET/CD00251732.pdf; ComponentLink3Description: STM32 Family Web Page; ComponentLink3URL: www.st.com/stm32
footprint LQFP64_N (Thin QFP, 64-Leads, Body 10x10mm, Pitch 0.5mm, IPC Medium Density)
footprint LQFP64_L (Thin QFP, 64-Leads, Body 10x10mm, Pitch 0.5mm, IPC High Density)
footprint LQFP64_M (Thin QFP, 64-Leads, Body 10x10mm, Pitch 0.5mm, IPC Low Density)
part A pins: 2 PC13-TAMPER-RTC (io), 3 PC14-OSC32_IN (io), 4 PC15-OSC32_OUT (io), 5 PD0-OSC_IN (io), 6 PD1 (io), 7 NRST (io), 8 PC0 (io), 9 PC1 (io), 10 PC2 (io), 11 PC3 (io), 14 PA0-WKUP (io), 15 PA1 (io), 16 PA2 (io), 17 PA3 (io), 20 PA4 (io), 21 PA5 (io), 22 PA6 (io), 23 PA7 (io), 24 PC4 (io), 25 PC5 (io), 26 PB0 (io), 27 PB1 (io), 28 PB2 (io), 29 PB10 (io), 30 PB11 (io), 33 PB12 (io), 34 PB13 (io), 35 PB14 (io), 36 PB15 (io), 37 PC6 (io), 38 PC7 (io), 39 PC8 (io), 40 PC9 (io), 41 PA8 (io), 42 PA9 (io), 43 PA10 (io), 44 PA11 (io), 45 PA12 (io), 46 PA13 (io), 49 PA14 (io), 50 PA15 (io), 51 PC10 (io), 52 PC11 (io), 53 PC12 (io), 54 PD2 (io), 55 PB3 (io), 56 PB4 (io), 57 PB5 (io), 58 PB6 (io), 59 PB7 (io), 60 BOOT0 (in), 61 PB8 (io), 62 PB9 (io)
part B pins: 1 VBAT (power), 12 VSSA (power), 13 VDDA (power), 18 VSS_4 (power), 19 VDD_4 (power), 31 VSS_1 (power), 32 VDD_1 (power), 47 VSS_2 (power), 48 VDD_2 (power), 63 VSS_3 (power), 64 VDD_3 (power)